# Altium schematic symbol library CM4 IO_V1.10_Library.SchLib: 153 symbols (part 5 of 6)
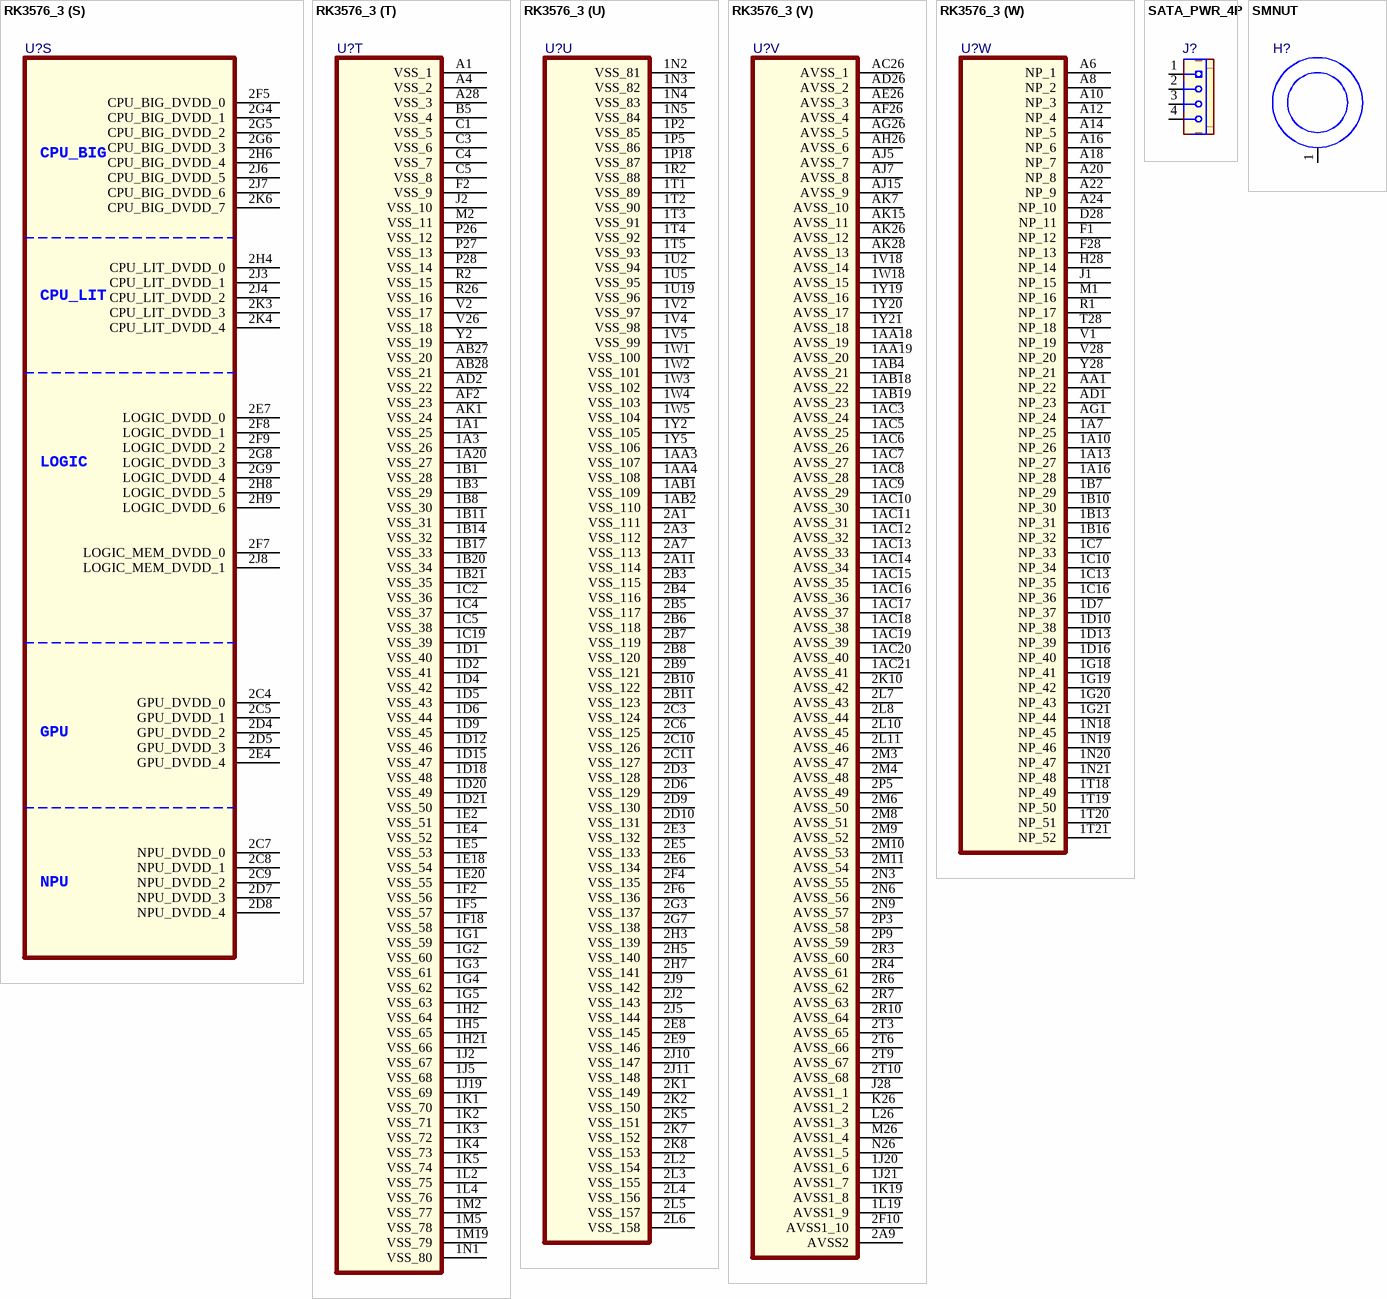
[diagram p80: symbols RK3576_3 to SMNUT]

## RK3576_3
designator U?
SWAP_INFO: (S1+S2+S3+S4+S5+S6+S7+S8+S9+S10+S11+S12+S13+S14+S15+S16+S17+S18+S19+S20+S21+S22+S23); SPLIT_INST: TRUE
part A pins: 1A2 LP5_DQ5_B    | LP4X_DQ5_B   |    LP4_DQ5_B, 1AA1 LP4_DQS1N_A  | LP4X_DQS1N_A | LP5_RDQS1N_A, 1AA2 LP4_DQS1P_A  | LP4X_DQS1P_A | LP5_RDQS1P_A, 1B2 LP5_DQ4_B    | LP4X_DQ4_B   |    LP4_DQ4_B, 1C1 LP5_DQ0_B    | LP4X_DQ0_B   |    LP4_DQ0_B, 1C3 LP5_WCK1N_B  | --           |           --, 1D3 LP5_WCK1P_B  | --           |           --, 1E1 LP5_DQ1_B    | LP4X_DQ1_B   |    LP4_DQ1_B, 1E3 LP5_A4_B     | LP4X_A4_B    |     LP4_A4_B, 1F1 LP5_A3_B     | LP4X_A3_B    |     LP4_A3_B, 1F3 LP5_WCK0N_B  | --           |           --, 1F4 LP5_WCK0P_B  | --           |           --, 1H1 LP5_A2_B     | LP4X_A2_B    |     LP4_A2_B, 1H3 --           | LP4X_CS0_B   |    LP4_CS0_B, 1H4 LP5_A6_B     | --           |           --, 1J1 LP5_CS0_B    | LP4X_CKE0_B  |   LP4_CKE0_B, 1J3 --           | LP4X_CS1_B   |    LP4_CS1_B, 1J4 LP5_A5_B     | LP4X_A5_B    |     LP4_A5_B, 1L1 LP5_CS1_B    | LP4X_CKE1_B  |   LP4_CKE1_B, 1L3 LP4_A4_A     | LP4X_A4_A    |     LP5_A4_A, 1L5 DDRPHY_CK_VDDQ, 1M1 LP4_CKE0_A   | LP4X_CKE0_A  |    LP5_CS0_A, 1M3 LP4_A5_A     | LP4X_A5_A    |     LP5_A5_A, 1M4 LP4_CKE1_A   | LP4X_CKE1_A  |    LP5_CS1_A, 1P1 LP4_A2_A     | LP4X_A2_A    |     LP5_A2_A, 1P3 LP4_CS0_A    | LP4X_CS0_A   |           --, 1P4 --           | --           |     LP5_A6_A, 1R1 LP4_A3_A     | LP4X_A3_A    |     LP5_A3_A, 1R3 LP4_CS1_A    | LP4X_CS1_A   |           --, 1R4 LP5_RESET    | LP4X_RESET   |    LP4_RESET, 1R5 ZQ_A, 1U1 LP4_DQ4_A    | LP4X_DQ4_A   |    LP5_DQ4_A, 1U3 --           | --           |  LP5_WCK0N_A, 1U4 --           | --           |  LP5_WCK0P_A, 1V1 LP4_DQ13_A   | LP4X_DQ13_A  |   LP5_DQ13_A, 1V3 LP4_DQ5_A    | LP4X_DQ5_A   |    LP5_DQ5_A, 1Y1 LP4_DQ14_A   | LP4X_DQ14_A  |   LP5_DQ14_A, 1Y3 --           | --           |  LP5_WCK1N_A, 1Y4 --           | --           |  LP5_WCK1P_A, 2B1 DDRPHY_PLL_AVDD1V8, 2B2 DDRPHY_CKE_VDDQ, 2C1 ZQ_B, 2C2 DDRPHY_PLL_AVSS, 2D1 DDRPHY_VDDQ_0, 2D2 DDRPHY_PLL_DVDD, 2E1 DDRPHY_VDDQ_1, 2E2 DDRPHY_DVDD_0, 2F1 DDRPHY_VDDQ_2, 2F2 DDRPHY_DVDD_1, 2F3 DDRPHY_DVDD_4, 2G1 DDRPHY_VDDQ_3, 2G2 DDRPHY_DVDD_2, 2H1 DDRPHY_VDDQ_4, 2H2 DDRPHY_DVDD_3, 2J1 DDRPHY_VDDQ_5, A2 LP5_DQ11_B   | LP4X_DQ11_B  |   LP4_DQ11_B, A3 LP5_RDQS1P_B | LP4X_DQS1P_B |  LP4_DQS1P_B, A5 LP5_DQ6_B    | LP4X_DQ6_B   |    LP4_DQ6_B, AA2 LP4_DQS0P_A  | LP4X_DQS0P_A | LP5_RDQS0P_A, AB1 LP4_DQ7_A    | LP4X_DQ7_A   |    LP5_DQ7_A, AB2 LP4_DMI0_A   | LP4X_DMI0_A  |   LP5_DMI0_A, AC1 LP4_DQ6_A    | LP4X_DQ6_A   |    LP5_DQ6_A, AC2 LP4_DQ12_A   | LP4X_DQ12_A  |   LP5_DQ12_A, AE1 LP4_DMI1_A   | LP4X_DMI1_A  |   LP5_DMI1_A, AE2 LP4_DQ15_A   | LP4X_DQ15_A  |   LP5_DQ15_A, AF1 LP4_DQ8_A    | LP4X_DQ8_A   |    LP5_DQ8_A, AG2 LP4_DQ9_A    | LP4X_DQ9_A   |    LP5_DQ9_A, AH1 LP4_DQ11_A   | LP4X_DQ11_A  |   LP5_DQ11_A, AH2 LP4_DQ10_A   | LP4X_DQ10_A  |   LP5_DQ10_A, B1 LP5_DQ9_B    | LP4X_DQ9_B   |    LP4_DQ9_B, B2 LP5_DQ10_B   | LP4X_DQ10_B  |   LP4_DQ10_B, B3 LP5_RDQS1N_B | LP4X_DQS1N_B |  LP4_DQS1N_B, B4 LP5_DMI0_B   | LP4X_DMI0_B  |   LP4_DMI0_B, C2 LP5_DQ8_B    | LP4X_DQ8_B   |    LP4_DQ8_B, D1 LP5_DQ15_B   | LP4X_DQ15_B  |   LP4_DQ15_B, D2 LP5_DMI1_B   | LP4X_DMI1_B  |   LP4_DMI1_B, E1 LP5_DQ14_B   | LP4X_DQ14_B  |   LP4_DQ14_B, E2 LP5_DQ13_B   | LP4X_DQ13_B  |   LP4_DQ13_B, G1 LP5_DQ7_B    | LP4X_DQ7_B   |    LP4_DQ7_B, G2 LP5_DQ12_B   | LP4X_DQ12_B  |   LP4_DQ12_B, H1 LP5_RDQS0P_B | LP4X_DQS0P_B |  LP4_DQS0P_B, H2 LP5_RDQS0N_B | LP4X_DQS0N_B |  LP4_DQS0N_B, K1 LP5_DQ3_B    | LP4X_DQ3_B   |    LP4_DQ3_B, K2 LP5_DQ2_B    | LP4X_DQ2_B   |    LP4_DQ2_B, L1 LP5_A0_B     | LP4X_A0_B    |     LP4_A0_B, L2 LP5_A1_B     | LP4X_A1_B    |     LP4_A1_B, N1 LP5_CLKN_B   | LP4X_CLKN_B  |   LP4_CLKN_B, N2 LP5_CLKP_B   | LP4X_CLKP_B  |   LP4_CLKP_B, P1 LP4_CLKN_A   | LP4X_CLKN_A  |   LP5_CLKN_A, P2 LP4_CLKP_A   | LP4X_CLKP_A  |   LP5_CLKP_A, T1 LP4_A0_A     | LP4X_A0_A    |     LP5_A0_A, T2 LP4_A1_A     | LP4X_A1_A    |     LP5_A1_A, U1 LP4_DQ3_A    | LP4X_DQ3_A   |    LP5_DQ3_A, U2 LP4_DQ2_A    | LP4X_DQ2_A   |    LP5_DQ2_A, W1 LP4_DQ0_A    | LP4X_DQ0_A   |    LP5_DQ0_A, W2 LP4_DQ1_A    | LP4X_DQ1_A   |    LP5_DQ1_A, Y1 LP4_DQS0N_A  | LP4X_DQS0N_A | LP5_RDQS0N_A
part B pins: 1AA5 UFS_TX_D0N, 1AB3 UFS_TX_D1P, 1AB5 UFS_TX_D0P, 1AC4 UFS_TX_D1N, 2N1 UFS_AVDD0V85, 2P1 UFS_AVDD1V8, 2R1 UFS_TX_REXT, AJ8 UFS_RX_D1N, AJ9 UFS_RX_D0N, AK8 UFS_RX_D1P, AK9 UFS_RX_D0P
part C pins: 1F20 PWM2_CH1_M0| MIPI_TE_M3| I2C7_SDA_M0  | UART6_RX_M2  | --          | --          | --          | FSPI0_CSN0| EMMC_RSTN| GPIO1_B3_u, 1F21 PWM2_CH7_M1| --        | --           | --           | PDM0_CLK0_M1| SAI0_SDI1_M2| SAI0_SDO3_M2| FSPI0_CLK | EMMC_CLK | GPIO1_B1_d, 1H19 --         | --        | I2C7_SCL_M0  | UART6_TX_M2  | --          | --          | --          | FSPI0_CSN1| EMMC_CMD | GPIO1_B0_u, 1H20 --         | --        | --           | SPI0_CSN1_M2 | PDM0_SDI0_M1| SAI3_SDO_M0 | SAI0_SDI0_M2| FSPI0_DQS | EMMC_STRB| GPIO1_B2_d, 2D11 VCCIO0_VCC1V8, F27 --         | --        | --           | SPI0_CLK_M2  | --          | SAI3_SDI_M0 | SAI0_SDO0_M2| FSPI0_D7  | EMMC_D7  | GPIO1_A7_u, G26 --         | --        | I2C9_SDA_M0  | SPI0_MISO_M2 | PDM0_CLK1_M1| SAI3_LRCK_M0| --          | FSPI0_D6  | EMMC_D6  | GPIO1_A6_u, G27 --         | --        | UART6_RTSN_M2| UART7_TX_M1  | PDM0_SDI3_M1| SAI0_SDI3_M2| SAI0_SDO1_M2| FSPI0_D2  | EMMC_D2  | GPIO1_A2_u, G28 --         | --        | I2C2_SDA_M1  | UART7_CTSN_M1| --          | --          | SAI0_LRCK_M2| FSPI0_D1  | EMMC_D1  | GPIO1_A1_u, H26 --         | --        | I2C2_SCL_M1  | UART7_RTSN_M1| --          | --          | SAI0_SCLK_M2| FSPI0_D0  | EMMC_D0  | GPIO1_A0_u, H27 --         | --        | --           | SPI0_CSN0_M2 | --          | SAI3_MCLK_M0| SAI0_MCLK_M2| FSPI0_D4  | EMMC_D4  | GPIO1_A4_u, J26 --         | --        | UART6_CTSN_M2| UART7_RX_M1  | PDM0_SDI1_M1| SAI0_SDI2_M2| SAI0_SDO2_M2| FSPI0_D3  | EMMC_D3  | GPIO1_A3_u, J27 --         | --        | I2C9_SCL_M0  | SPI0_MOSI_M2 | PDM0_SDI2_M1| SAI3_SCLK_M0| --          | FSPI0_D5  | EMMC_D5  | GPIO1_A5_u
part D pins: 2A8 VCCIO1_VCC, A23 I3C1_SCL_M1   | CAN1_RX_M0| SPI0_CSN1_M1| --         | UART5_RTSN_M2| JTAG_TCK_M0| --          | SAI3_LRCK_M3| DSM_AUD_RP_M0| FSPI1_D2_M0  | SDMMC0_D2 | GPIO2_A2_d, A25 PWM2_CH3_M0   | CAN0_TX_M0| SPI0_MISO_M1| I2C8_SDA_M0| UART7_TX_M2  | UART0_TX_M1| --          | SAI3_MCLK_M3| DSM_AUD_LN_M0| FSPI1_D1_M0  | SDMMC0_D1 | GPIO2_A1_d, B23 I3C1_SDA_M1   | CAN1_TX_M0| --          | --         | UART5_CTSN_M2| JTAG_TMS_M0| --          | SAI3_SDI_M3 | DSM_AUD_RN_M0| FSPI1_D3_M0  | SDMMC0_D3 | GPIO2_A3_d, B24 I3C1_SDA_PU_M1| --        | SPI0_CLK_M1 | I2C5_SCL_M0| --           | UART5_TX_M2| TEST_CLK_OUT| SAI3_SCLK_M3| --           | FSPI1_CLK_M0 | SDMMC0_CLK| GPIO2_A5_d, B25 PWM2_CH2_M0   | CAN0_RX_M0| SPI0_MOSI_M1| I2C8_SCL_M0| UART7_RX_M2  | UART0_RX_M1| --          | --          | DSM_AUD_LP_M0| FSPI1_D0_M0  | SDMMC0_D0 | GPIO2_A0_d, C24 PWM2_CH4_M0   | --        | SPI0_CSN0_M1| I2C5_SDA_M0| --           | UART5_RX_M2| --          | SAI3_SDO_M3 | --           | FSPI1_CSN0_M0| SDMMC0_CMD| GPIO2_A4_d
part E pins: 1M18 OSC_AVDD1V8, 1M20 I2C0_SCL_M0| --            | SPI2_CSN0_M0 | AUPLL_CLK_IN_M1| --          | GPIO0_B0_z, 1M21 I2C0_SDA_M0| --            | SPI2_MISO_M0 | --             | --          | GPIO0_B1_z, 1P19 --         | --            | PMIC_INT     | --             | --          | GPIO0_A6_u, 1P20 I2C1_SCL_M0| --            | SPI2_CLK_M0  | --             | --          | GPIO0_B2_z, 1P21 I2C1_SDA_M0| --            | SPI2_MOSI_M0 | --             | --          | GPIO0_B3_z, 1R18 PMUIO0_VCC1V8, 1R19 --         | --            | SPI2_CSN1_M0 | --             | SDMMC0_DETN | GPIO0_A7_u, 1R20 I2C6_SDA_M0| --            | PWR_CTRL3    | --             | --          | GPIO0_A5_d, 1R21 I2C6_SCL_M0| CLK0_32K_OUT  | CLK_32K_IN   | --             | --          | GPIO0_A2_d, 1U20 --           | PWM0_CH0_M0| --            | UART10_TX_M2        | --              | PDM0_CLK0_M0| --            | SAI0_MCLK_M1| GPIO0_C4_d, 1U21 --           | --         | SPI0_MOSI_M0  | --                  | --              | PDM0_SDI0_M0| --            | SAI0_SDI0_M1| GPIO0_D0_d, 1V19 --           | --         | SPI0_CSN0_M0  | --                  | I2C3_SCL_M1     | --          | --            | SAI0_SCLK_M1| GPIO0_C6_d, 1V20 UART1_CTSN_M0| PWM1_CH5_M0| CPUBIG_AVS    | PCIE21_PORT0_WAKE_M0| I2C4_SCL_M0     | PDM0_SDI2_M0| SAI0_SDO2_M1  | SAI0_SDI2_M1| GPIO0_D2_d, 1V21 UART1_RTSN_M0| PWM2_CH0_M0| GPU_AVS       | PCIE21_PORT1_WAKE_M0| I2C4_SDA_M0     | PDM0_SDI3_M0| SAI0_SDO1_M1  | SAI0_SDI3_M1| GPIO0_D3_d, 1W19 --           | --         | SPI0_CLK_M0   | --                  | I2C3_SDA_M1     | --          | --            | SAI0_LRCK_M1| GPIO0_C7_d, 1W20 --           | --         | I3C0_SDA_PU_M0| UART10_RX_M2        | DP_HPDIN_M1     | --          | --            | SAI0_SDO0_M1| GPIO0_C5_d, 1W21 --           | PWM0_CH1_M0| SPI0_CSN1_M0  | --                  | HDMI_TX_CEC_M1  | PDM0_CLK1_M0| --            | --          | GPIO0_C3_d, 2G10 PLL_DVDD0V75, 2G11 PLL_AVSS, 2H10 PLL_AVDD1V8, 2H11 TVSS, 2K9 PMUIO1_VCC, 2K11 PMU_LOGIC_DVDD0V75_0, 2L1 PMU_LOGIC_DVDD0V75_1, AA26 --           | --         | SPI0_MISO_M0  | --                  | --              | PDM0_SDI1_M0| SAI0_SDO3_M1  | SAI0_SDI1_M1| GPIO0_D1_d, AA27 --           | PWM1_CH2_M0| --            | EDP_TX_HPDIN_M1     | HDMI_TX_HPDIN_M1| --          | SDMMC1_DETN_M2| SDMMC0_PWREN| GPIO0_B6_d, AA28 --           | PWM1_CH0_M0| --            | UART4_TX_M2         | I2C1_SCL_M1     | --          | --            | REF_CLK1_OUT| GPIO0_B4_d, AB26 --           | PWM1_CH1_M0| --            | UART4_RX_M2         | I2C1_SDA_M1     | --          | --            | REF_CLK2_OUT| GPIO0_B5_d, R27 OSC_XIN, R28 OSC_XOUT, T26 NPOR, T27 --         | --            | --           | AUPLL_CLK_IN_M0| REF_CLK0_OUT| GPIO0_A0_d, U26 --         | TSADC_CTRL_M1 | PWR_CTRL1    | --             | --          | GPIO0_A3_d, U27 --         | TSADC_CTRL_ORG| TSADC_CTRL_M0| --             | --          | GPIO0_A1_z, U28 --         | --            | PWR_CTRL2    | --             | --          | GPIO0_A4_d, V27 --           | --         | --            | JTAG_TCK_M1         | UART0_TX_M0     | --          | --            | --          | GPIO0_D4_u, W26 --           | --         | --            | JTAG_TMS_M1         | UART0_RX_M0     | --          | --            | --          | GPIO0_D5_u, W27 --           | --         | I3C0_SDA_M0   | UART8_RX_M2         | I2C0_SDA_M1     | --          | --            | --          | GPIO0_C2_d, W28 --           | --         | I3C0_SCL_M0   | UART8_TX_M2         | I2C0_SCL_M1     | --          | --            | --          | GPIO0_C1_d, Y26 --           | PWM1_CH3_M0| CPULIT_AVS    | UART1_RX_M0         | I2C2_SDA_M0     | --          | --            | --          | GPIO0_C0_d, Y27 --           | PWM1_CH4_M0| NPU_AVS       | UART1_TX_M0         | I2C2_SCL_M0     | --          | --            | --          | GPIO0_B7_d
part F pins: 1A4 CAN0_RX_M2           | --                    | I2C4_SDA_M1  | UART6_RX_M0  | SPI3_MISO_M2| FLEXBUS0_D14_M1| PDM1_CLK0_M1   | SAI4_LRCK_M0| --          | GPIO4_A6_d, 1A5 CAN1_RX_M2           | PCIE21_PORT0_WAKE_M2  | I2C3_SDA_M0  | UART2_RX_M1  | --          | FLEXBUS0_CSN_M4| --             | --          | SPDIF_RX0_M0| GPIO4_B4_d, 1B4 CAN0_TX_M2           | --                    | I2C4_SCL_M1  | UART6_TX_M0  | SPI3_MOSI_M2| FLEXBUS0_D13_M1| PDM1_SDI3_M1   | SAI4_SCLK_M0| --          | GPIO4_A4_d, 1B5 PWM2_CH4_M1          | PCIE21_PORT1_WAKE_M2  | I2C2_SCL_M2  | UART5_RTSN_M1| SPI3_CSN0_M2| FLEXBUS1_CSN_M4| --             | --          | SAI1_SCLK_M0| GPIO4_A3_d, 1C6 CAN1_TX_M2           | PCIE21_PORT0_CLKREQ_M2| I2C3_SCL_M0  | UART2_TX_M1  | --          | FLEXBUS0_D15_M1| --             | --          | SPDIF_TX0_M0| GPIO4_B5_d, 2A2 VCCIO2_VCC, A7 PWM2_CH6_M0          | --                    | --           | --           | SPI3_CLK_M2 | --             | --             | SAI4_SDI_M0 | SAI1_SDO0_M0| GPIO4_A7_d, B6 PWM2_CH7_M0          | --                    | --           | SPI3_CSN1_M2 | SPI4_CSN0_M2| --             | PDM1_SDI0_M1   | SAI4_SDO_M0 | SAI1_SDI0_M0| GPIO4_B3_d, B7 --                   | UART2_RTSN_M1         | UART6_RTSN_M0| UART5_TX_M1  | SPI4_CLK_M2 | FLEXBUS1_D13_M1| PDM1_CLK1_M1   | SAI1_SDI3_M0| SAI1_SDO1_M0| GPIO4_B0_d, B8 --                   | PCIE21_PORT1_CLKREQ_M2| I2C2_SDA_M2  | UART5_CTSN_M1| SPI4_CSN1_M2| FLEXBUS1_D12_M1| --             | --          | SAI1_LRCK_M0| GPIO4_A5_d, C6 PWM2_CH5_M0          | --                    | --           | --           | --          | --             | AUPLL_CLK_IN_M2| SAI4_MCLK_M0| SAI1_MCLK_M0| GPIO4_A2_d, C7 --                   | UART2_CTSN_M1         | UART6_CTSN_M0| UART5_RX_M1  | SPI4_MOSI_M2| FLEXBUS1_D14_M1| PDM1_SDI2_M1   | SAI1_SDI2_M0| SAI1_SDO2_M0| GPIO4_B1_d, C8 PCIE21_PORT1_PERST_M2| PCIE21_PORT0_PERST_M2 | MIPI_TE_M0   | --           | SPI4_MISO_M2| FLEXBUS1_D15_M1| PDM1_SDI1_M1   | SAI1_SDI1_M0| SAI1_SDO3_M0| GPIO4_B2_d
part G pins: 1C20 --          | PCIE21_PORT0_BUTTONRST| SPI2_MOSI_M1| UART2_RTSN_M0 | UART4_TX_M1   | --          | --          | --          | FSPI1_D0_M1  | --             | ETH1_TXD0_M1       | GPIO1_C4_d, 1C21 --          | --                    | SPI2_CSN0_M1| I2C6_SDA_M1   | UART4_CTSN_M1 | --          | --          | --          | FSPI1_CSN0_M1| SDMMC1_DETN_M0 | ETH1_PPSTRIG_M1    | GPIO1_C3_u, 1D19 --          | SATA30_CPDET          | --          | I2C8_SDA_M1   | UART2_RX_M0   | --          | PDM0_SDI1_M2| --          | FSPI1_D3_M1  | --             | ETH1_RXD0_M1       | GPIO1_C7_d, 1E19 --          | SATA30_CPPOD          | --          | I2C8_SCL_M1   | UART2_TX_M0   | --          | PDM0_SDI0_M2| --          | FSPI1_D2_M1  | --             | ETH1_TXCTL_M1      | GPIO1_C6_d, 1E21 CLK1_32K_OUT| SATA30_MPSWIT         | SPI2_CLK_M1 | I2C5_SDA_M1   | UART10_CTSN_M1| SPDIF_TX1_M2| PDM0_CLK1_M2| --          | FSPI1_CLK_M1 | --             | ETH_CLK1_25M_OUT_M1| GPIO1_D5_d, 1F19 --          | --                    | --          | I2C5_SCL_M1   | UART10_RTSN_M1| SPDIF_RX1_M2| PDM0_SDI3_M2| SAI2_MCLK_M0| FSPI1_DQS_M1 | --             | ETH1_MCLK_M1       | GPIO1_D4_d, 1H18 VCCIO3_VCC, A27 PWM0_CH0_M1 | PCIE21_PORT1_PERST_M1 | SPI1_CSN1_M0| --            | UART3_TX_M2   | --          | PDM0_SDI2_M2| --          | --           | SDMMC1_CMD_M0  | ETH1_TXD3_M1       | GPIO1_C0_d, B27 --          | PCIE21_PORT0_WAKE_M1  | SPI1_CSN0_M0| --            | UART3_RTSN_M2 | --          | --          | SAI3_SDI_M1 | --           | SDMMC1_D3_M0   | ETH1_TXD2_M1       | GPIO1_B7_d, B28 --          | PCIE21_PORT0_CLKREQ_M1| SPI1_MISO_M0| --            | UART3_CTSN_M2 | --          | --          | SAI3_SDO_M1 | --           | SDMMC1_D2_M0   | ETH1_RXCLK_M1      | GPIO1_B6_d, C26 --          | PCIE21_PORT0_PERST_M1 | --          | --            | UART3_RX_M2   | --          | PDM0_CLK0_M2| SAI3_MCLK_M1| --           | SDMMC1_CLK_M0  | ETH1_TXCLK_M1      | GPIO1_C1_d, C27 PWM1_CH0_M1 | PCIE21_PORT1_CLKREQ_M1| SPI1_CLK_M0 | I2C9_SDA_M1   | --            | --          | --          | SAI3_SCLK_M1| --           | SDMMC1_D0_M0   | ETH1_RXD2_M1       | GPIO1_B4_d, C28 PWM1_CH1_M1 | PCIE21_PORT1_WAKE_M1  | SPI1_MOSI_M0| I2C9_SCL_M1   | --            | --          | --          | SAI3_LRCK_M1| --           | SDMMC1_D1_M0   | ETH1_RXD3_M1       | GPIO1_B5_d, D26 --          | PCIE21_PORT1_BUTTONRST| SPI2_MISO_M1| UART2_CTSN_M0 | UART4_RX_M1   | --          | --          | --          | FSPI1_D1_M1  | --             | ETH1_TXD1_M1       | GPIO1_C5_d, D27 PWM1_CH2_M1 | --                    | SPI2_CSN1_M1| I2C6_SCL_M1   | UART4_RTSN_M1 | --          | --          | --          | FSPI1_CSN1_M1| SDMMC1_PWREN_M0| ETH1_PPSCLK_M1     | GPIO1_C2_u, E26 --          | --                    | --          | I3C0_SDA_PU_M1| UART10_RX_M1  | --          | --          | SAI2_SCLK_M0| FSPI1_D5_M1  | --             | ETH1_RXCTL_M1      | GPIO1_D1_d, E27 PWM1_CH3_M1 | --                    | --          | I3C0_SCL_M1   | --            | --          | --          | SAI2_LRCK_M0| FSPI1_D6_M1  | --             | ETH1_MDC_M1        | GPIO1_D2_d, E28 --          | --                    | --          | --            | UART10_TX_M1  | --          | --          | SAI2_SDO_M0 | FSPI1_D4_M1  | --             | ETH1_RXD1_M1       | GPIO1_D0_d, F26 PWM1_CH4_M1 | --                    | --          | I3C0_SDA_M1   | --            | --          | --          | SAI2_SDI_M0 | FSPI1_D7_M1  | --             | ETH1_MDIO_M1       | GPIO1_D3_d
part H pins: 1A15 --         | --                    | I2C8_SCL_M2           | UART8_RTSN_M1| UART7_TX_M0   | --          | SAI0_SCLK_M0| ETH0_RXD3_M1       | ETH1_PTP_REFCLK_M1 | VI_CIF_D7           | GPIO2_B6_d, 1A17 --         | --                    | I2C8_SDA_M2           | UART8_CTSN_M1| UART7_RX_M0   | --          | SAI0_LRCK_M0| ETH0_RXD2_M1       | --                 | VI_CIF_D6           | GPIO2_B7_d, 1A18 PWM2_CH6_M2| I3C1_SDA_PU_M0        | --                    | --           | UART9_RTSN_M0 | SPDIF_RX0_M2| SAI3_MCLK_M2| ETH0_MCLK_M1       | ETH_CLK1_25M_OUT_M0| CAM_CLK1_OUT_M1     | GPIO2_D6_d, 1B15 --         | --                    | I2C7_SDA_M1           | SPI3_MOSI_M0 | UART3_RX_M0   | --          | SAI3_LRCK_M2| ETH0_MDC_M1        | ETH1_PPSTRIG_M0    | VI_CIF_VSYNC        | GPIO3_A1_d, 1B18 --         | MIPI_TE_M1            | CAN1_TX_M3            | SPI3_MISO_M0 | UART3_CTSN_M0 | SPDIF_RX1_M1| SAI3_SDO_M2 | ETH0_RXCTL_M1      | ETH1_PPSCLK_M0     | VI_CIF_CLKO         | GPIO3_A2_d, 1C14 PWM2_CH4_M2| --                    | I2C9_SDA_M2           | --           | UART6_RTSN_M1 | --          | --          | --                 | ETH1_MDC_M0        | ISP_PRELIGHT_TRIG_M0| GPIO2_D4_d, 1C15 PWM2_CH7_M2| --                    | --                    | SPI3_CSN1_M0 | UART9_CTSN_M0 | SPDIF_TX0_M2| SAI0_SDO3_M0| ETH_CLK0_25M_OUT_M1| ETH1_MCLK_M0       | CAM_CLK2_OUT_M1     | GPIO2_D7_d, 1C17 --         | --                    | CAN1_RX_M3            | SPI3_CSN0_M0 | UART3_RTSN_M0 | SPDIF_TX1_M1| SAI3_SDI_M2 | ETH0_RXD1_M1       | ETH1_PTP_REFCLK_M0 | VI_CIF_CLKI         | GPIO3_A3_d, 1D14 PWM2_CH5_M2| --                    | I2C9_SCL_M2           | --           | UART6_CTSN_M1 | --          | --          | --                 | ETH1_MDIO_M0       | ISP_FLASH_TRIGOUT_M0| GPIO2_D5_d, 2A6 VCCIO4_VCC, A15 PWM0_CH0_M2| --                    | --                    | SPI1_MISO_M1 | UART11_RTSN_M1| PDM1_SDI3_M0| SAI2_LRCK_M1| --                 | ETH1_TXD2_M0       | VI_CIF_D2           | GPIO2_C3_d, A17 PWM1_CH1_M2| --                    | --                    | SPI1_CSN1_M1 | UART9_TX_M0   | PDM1_CLK1_M0| SAI2_MCLK_M1| ETH0_PPSCLK_M1     | ETH1_RXD3_M0       | VI_CIF_D4           | GPIO2_C1_d, A19 PWM1_CH2_M2| --                    | --                    | SPI1_MOSI_M1 | UART11_CTSN_M1| PDM1_SDI2_M0| SAI2_SCLK_M1| ETH0_PPSTRIG_M1    | ETH1_RXCLK_M0      | VI_CIF_D3           | GPIO2_C2_d, A21 --         | --                    | --                    | --           | UART1_RX_M1   | PDM0_SDI2_M3| SAI0_SDI1_M0| ETH0_TXD0_M1       | SDMMC1_D3_M1       | VI_CIF_D12          | GPIO2_B1_d, B15 PWM0_CH1_M2| --                    | I2C5_SDA_M2           | --           | UART4_RTSN_M0 | --          | SAI4_LRCK_M3| --                 | ETH1_TXD1_M0       | --                  | GPIO2_C7_d, B16 PWM2_CH0_M2| --                    | I2C6_SCL_M2           | --           | UART4_TX_M0   | --          | SAI4_SDI_M3 | --                 | ETH1_TXCTL_M0      | --                  | GPIO2_D0_d, B17 PWM1_CH0_M2| --                    | --                    | --           | UART9_RX_M0   | PDM1_SDI1_M0| --          | ETH0_PTP_REFCLK_M1 | ETH1_RXD2_M0       | VI_CIF_D5           | GPIO2_C0_d, B18 PWM2_CH1_M2| --                    | I2C6_SDA_M2           | --           | UART4_RX_M0   | --          | SAI4_SDO_M3 | --                 | ETH1_RXD0_M0       | --                  | GPIO2_D1_d, B19 --         | --                    | I2C7_SCL_M1           | SPI3_CLK_M0  | UART3_TX_M0   | --          | SAI3_SCLK_M2| ETH0_MDIO_M1       | --                 | VI_CIF_HREF         | GPIO3_A0_d, B20 --         | SATA30_PORT0_ACTLED_M0| PCIE21_PORT0_PERST_M0 | SPI4_MOSI_M3 | UART7_CTSN_M0 | PDM0_SDI0_M3| SAI0_SDI3_M0| ETH0_TXD2_M1       | SDMMC1_PWREN_M1    | VI_CIF_D9           | GPIO2_B4_d, B21 --         | --                    | I2C4_SDA_M2           | --           | UART8_RX_M1   | --          | SAI0_SDO1_M0| ETH0_TXCTL_M1      | SDMMC1_D1_M1       | VI_CIF_D14          | GPIO2_A7_d, B22 --         | --                    | I2C4_SCL_M2           | SPI4_CSN1_M3 | UART8_TX_M1   | --          | SAI0_SDO0_M0| ETH0_RXD0_M1       | SDMMC1_D0_M1       | VI_CIF_D15          | GPIO2_A6_d, C15 PWM1_CH3_M2| --                    | --                    | SPI1_CSN0_M1 | UART11_TX_M1  | PDM1_SDI0_M0| SAI2_SDO_M1 | --                 | ETH1_TXD3_M0       | VI_CIF_D1           | GPIO2_C4_d, C16 PWM1_CH5_M2| --                    | I2C5_SCL_M2           | --           | UART4_CTSN_M0 | --          | SAI4_SCLK_M3| --                 | ETH1_TXD0_M0       | --                  | GPIO2_C6_d, C17 PWM1_CH4_M2| --                    | --                    | SPI1_CLK_M1  | UART11_RX_M1  | PDM1_CLK0_M0| SAI2_SDI_M1 | --                 | ETH1_TXCLK_M0      | VI_CIF_D0           | GPIO2_C5_d, C18 PWM2_CH2_M2| I3C1_SCL_M0           | --                    | --           | UART6_TX_M1   | --          | SAI4_MCLK_M3| --                 | ETH1_RXD1_M0       | CAM_CLK0_OUT_M1     | GPIO2_D2_d, C19 PWM2_CH3_M2| I3C1_SDA_M0           | --                    | --           | UART6_RX_M1   | --          | --          | --                 | ETH1_RXCTL_M0      | --                  | GPIO2_D3_d, C20 --         | --                    | PCIE21_PORT0_CLKREQ_M0| SPI4_CSN0_M3 | UART1_CTSN_M1 | PDM0_SDI1_M3| SAI0_SDI2_M0| ETH0_TXD3_M1       | SDMMC1_CMD_M1      | VI_CIF_D11          | GPIO2_B2_d, C21 --         | --                    | --                    | --           | UART1_TX_M1   | PDM0_SDI3_M3| SAI0_SDI0_M0| ETH0_TXD1_M1       | SDMMC1_D2_M1       | VI_CIF_D13          | GPIO2_B0_d, C22 --         | --                    | PCIE21_PORT1_CLKREQ_M0| SPI4_CLK_M3  | UART1_RTSN_M1 | PDM0_CLK1_M3| SAI0_SDO2_M0| ETH0_TXCLK_M1      | SDMMC1_CLK_M1      | VI_CIF_D10          | GPIO2_B3_d, C23 --         | SATA30_PORT1_ACTLED_M0| PCIE21_PORT1_PERST_M0 | SPI4_MISO_M3 | UART7_RTSN_M0 | PDM0_CLK0_M3| SAI0_MCLK_M0| ETH0_RXCLK_M1      | SDMMC1_DETN_M1     | VI_CIF_D8           | GPIO2_B5_d
part I pins: 1A6 --         | --            | SPI1_MOSI_M2  | UART8_TX_M0   | --             | --             | FLEXBUS1_D5    | DSMC_DATA3 | SAI1_LRCK_M1| --                 | VO_EBC_SDDO5 | VO_LCDC_D5   | GPIO3_C6_d, 1A8 PWM2_CH2_M3| --            | SPI1_MISO_M2  | UART8_RX_M0   | --             | --             | FLEXBUS1_D6    | DSMC_DATA4 | SAI1_SDO0_M1| --                 | VO_EBC_SDDO6 | VO_LCDC_D6   | GPIO3_C5_d, 1A9 PWM2_CH6_M3| --            | SPI3_MOSI_M1  | UART5_CTSN_M0 | --             | --             | FLEXBUS1_CLK   | DSMC_CLKN  | SAI1_SDI3_M1| --                 | VO_EBC_SDCLK | VO_LCDC_VSYNC| GPIO3_D6_d, 1A11 MIPI_TE_M2 | I2C7_SCL_M2   | SPI1_CSN1_M2  | UART3_TX_M1   | FLEXBUS1_CSN_M3| FLEXBUS1_D14_M0| FLEXBUS0_D13_M0| DSMC_INT0  | SAI4_LRCK_M1| CAM_CLK1_OUT_M0    | SPDIF_RX0_M1 | --           | GPIO4_A0_d, 1A12 PWM1_CH0_M3| --            | SPI2_CLK_M2   | UART1_CTSN_M2 | FLEXBUS0_CSN_M0| --             | FLEXBUS1_D11   | DSMC_RDYN  | SAI4_SDI_M1 | ETH_CLK0_25M_OUT_M0| VO_EBC_SDSHR | VO_LCDC_D23  | GPIO3_A4_d, 1A14 --         | I2C3_SCL_M2   | SPI3_CLK_M1   | UART5_RX_M0   | --             | --             | FLEXBUS1_D1    | DSMC_DATA0 | SAI1_SDI1_M1| --                 | VO_EBC_SDLE  | VO_LCDC_DEN  | GPIO3_D4_d, 1B6 --         | --            | SPI1_CLK_M2   | UART8_RTSN_M0 | --             | --             | FLEXBUS1_D4    | DSMC_DATA2 | SAI1_SCLK_M1| --                 | VO_EBC_SDDO4 | VO_LCDC_D4   | GPIO3_C7_d, 1B9 --         | I2C3_SDA_M2   | SPI3_MISO_M1  | UART5_TX_M0   | --             | --             | FLEXBUS1_D0    | DSMC_CLKP  | SAI1_SDI2_M1| --                 | VO_EBC_GDCLK | VO_LCDC_HSYNC| GPIO3_D5_d, 1B12 --         | I2C7_SDA_M2   | --            | UART3_RX_M1   | FLEXBUS0_CSN_M1| FLEXBUS1_D13_M0| FLEXBUS0_D14_M0| DSMC_INT2  | SAI4_SDO_M1 | CAM_CLK2_OUT_M0    | SPDIF_TX0_M1 | VO_POST_EMPTY| GPIO4_A1_d, 1C8 CAN0_TX_M3 | I2C5_SCL_M3   | SPI2_CSN0_M2  | UART11_TX_M0  | --             | --             | FLEXBUS1_D7    | DSMC_DATA5 | SAI1_SDO1_M1| --                 | VO_EBC_SDDO7 | VO_LCDC_D7   | GPIO3_C4_d, 1C9 CAN0_RX_M3 | I2C5_SDA_M3   | SPI2_MISO_M2  | UART11_RX_M0  | --             | --             | FLEXBUS1_D8    | DSMC_DATA6 | SAI1_SDO2_M1| ETH0_PTP_REFCLK_M0 | VO_EBC_SDDO10| VO_LCDC_D10  | GPIO3_C1_d, 1C11 --         | I2C4_SDA_M3   | UART3_CTSN_M1 | UART2_RX_M2   | FLEXBUS1_CSN_M0| --             | FLEXBUS1_D10   | DSMC_DQS0  | SAI1_SDI0_M1| ETH0_PPSTRIG_M0    | VO_EBC_SDDO12| VO_LCDC_D12  | GPIO3_B7_d, 1C12 PWM2_CH7_M3| --            | SPI3_CSN1_M1  | UART5_RTSN_M0 | FLEXBUS1_CSN_M1| FLEXBUS1_D12_M0| FLEXBUS0_D15_M0| DSMC_RESETN| SAI4_SCLK_M1| CAM_CLK0_OUT_M0    | VO_EBC_SDOE  | VO_LCDC_CLK  | GPIO3_D7_d, 1D8 PWM2_CH3_M3| --            | SPI1_CSN0_M2  | UART8_CTSN_M0 | --             | --             | FLEXBUS1_D3    | DSMC_DATA1 | SAI1_MCLK_M1| --                 | VO_EBC_SDDO3 | VO_LCDC_D3   | GPIO3_D0_d, 1D11 --         | I2C4_SCL_M3   | UART3_RTSN_M1 | UART2_TX_M2   | --             | --             | FLEXBUS1_D9    | DSMC_DATA7 | SAI1_SDO3_M1| ETH0_PPSCLK_M0     | VO_EBC_SDDO11| VO_LCDC_D11  | GPIO3_C0_d, 2A4 VCCIO5_VCC_0, 2A5 VCCIO5_VCC_1, A9 PWM1_CH1_M3| --            | SPI2_CSN1_M2  | UART1_RTSN_M2 | --             | --             | FLEXBUS0_D7    | DSMC_DATA15| PDM1_SDI3_M2| ETH0_MDIO_M0       | VO_EBC_GDSP  | VO_LCDC_D22  | GPIO3_A5_d, A11 --         | I2C8_SCL_M3   | --            | UART9_TX_M1   | --             | --             | FLEXBUS0_D2    | DSMC_DATA10| PDM1_SDI0_M2| ETH0_TXCTL_M0      | VO_EBC_SDCE0 | VO_LCDC_D16  | GPIO3_B3_d, A13 --         | I2C8_SDA_M3   | --            | UART9_RX_M1   | --             | --             | FLEXBUS0_D3    | DSMC_DATA11| PDM1_SDI1_M2| ETH0_RXD0_M0       | VO_EBC_SDCE1 | VO_LCDC_D17  | GPIO3_B2_d, B9 PWM2_CH0_M3| I2C9_SCL_M3   | SPI4_MISO_M1  | UART11_RTSN_M0| --             | --             | FLEXBUS0_D9    | DSMC_INT1  | SAI2_SCLK_M2| ETH0_TXD3_M0       | VO_EBC_SDDO9 | VO_LCDC_D9   | GPIO3_C2_d, B10 PWM1_CH4_M3| --            | --            | UART9_RTSN_M1 | --             | --             | FLEXBUS0_D1    | DSMC_DATA9 | SPDIF_RX1_M0| ETH0_TXD1_M0       | VO_EBC_SDDO15| VO_LCDC_D15  | GPIO3_B4_d, B11 PWM0_CH1_M3| --            | SPI3_CSN0_M1  | --            | --             | --             | FLEXBUS0_CLK   | DSMC_DQS1  | --          | ETH0_TXCLK_M0      | VO_EBC_SDDO13| VO_LCDC_D13  | GPIO3_B6_d, B12 PWM2_CH5_M3| I3C1_SCL_M2   | --            | UART2_CTSN_M2 | --             | --             | FLEXBUS1_D2    | DSMC_CSN0  | SAI2_SDO_M2 | ETH0_RXD2_M0       | VO_EBC_SDDO0 | VO_LCDC_D0   | GPIO3_D3_d, B13 --         | --            | UART10_RTSN_M0| UART1_TX_M2   | --             | --             | FLEXBUS0_D5    | DSMC_DATA13| PDM1_CLK1_M2| ETH0_RXCTL_M0      | VO_EBC_VCOM  | VO_LCDC_D20  | GPIO3_A7_d, B14 PWM0_CH0_M3| --            | SPI2_MOSI_M2  | UART10_RX_M0  | --             | --             | FLEXBUS0_D8    | DSMC_CSN1  | SAI4_MCLK_M1| ETH0_MCLK_M0       | VO_EBC_SDCE3 | VO_LCDC_D19  | GPIO3_B0_d, C9 PWM1_CH2_M3| --            | UART10_CTSN_M0| UART1_RX_M2   | --             | --             | FLEXBUS0_D6    | DSMC_DATA14| PDM1_SDI2_M2| ETH0_MDC_M0        | VO_EBC_GDOE  | VO_LCDC_D21  | GPIO3_A6_d, C10 PWM2_CH1_M3| I2C9_SDA_M3   | SPI4_MOSI_M1  | UART11_CTSN_M0| FLEXBUS0_CSN_M2| --             | FLEXBUS0_D10   | DSMC_INT3  | SAI2_LRCK_M2| ETH0_TXD2_M0       | VO_EBC_SDDO8 | VO_LCDC_D8   | GPIO3_C3_d, C11 PWM1_CH5_M3| --            | --            | UART9_CTSN_M1 | --             | --             | FLEXBUS0_D0    | DSMC_DATA8 | SPDIF_TX1_M0| ETH0_TXD0_M0       | VO_EBC_SDDO14| VO_LCDC_D14  | GPIO3_B5_d, C12 PWM2_CH4_M3| I3C1_SDA_M2   | SPI4_CSN1_M1  | UART2_RTSN_M2 | FLEXBUS0_CSN_M3| FLEXBUS1_D15_M0| FLEXBUS0_D12   | DSMC_CSN3  | SAI2_SDI_M2 | ETH0_RXD3_M0       | VO_EBC_SDDO1 | VO_LCDC_D1   | GPIO3_D2_d, C13 PWM1_CH3_M3| --            | SPI4_CSN0_M1  | UART10_TX_M0  | --             | --             | FLEXBUS0_D4    | DSMC_DATA12| PDM1_CLK0_M2| ETH0_RXD1_M0       | VO_EBC_SDCE2 | VO_LCDC_D18  | GPIO3_B1_d, C14 --         | I3C1_SDA_PU_M2| SPI4_CLK_M1   | --            | FLEXBUS1_CSN_M2| --             | FLEXBUS0_D11   | DSMC_CSN2  | SAI2_MCLK_M2| ETH0_RXCLK_M0      | VO_EBC_SDDO2 | VO_LCDC_D2   | GPIO3_D1_d
part J pins: 1AC1 PWM2_CH2_M1| CAN1_TX_M1  | SPI4_MISO_M0   | I2C6_SCL_M3| SATA30_PORT0_ACTLED_M1| PCIE21_PORT0_CLKREQ_M3| VP1_SYNC_OUT| SAI4_SDI_M2 | --                  | GPIO4_C6_d, 2N2 VCCIO6_VCC, AJ1 PWM1_CH5_M1| UART11_TX_M2| SPI4_CSN1_M0   | I2C7_SCL_M3| PCIE21_PORT1_WAKE_M3  | HDMI_TX_CEC_M0        | --          | SAI4_MCLK_M2| DSM_AUD_LP_M1       | GPIO4_C0_d, AJ2 PWM0_CH1_M1| UART11_RX_M2| EDP_TX_HPDIN_M0| I2C7_SDA_M3| PCIE21_PORT1_CLKREQ_M3| HDMI_TX_HPDIN_M0      | --          | --          | DSM_AUD_LN_M1       | GPIO4_C1_d, AJ3 PWM2_CH1_M1| UART9_RX_M2 | CAN0_RX_M1     | I2C2_SDA_M3| --                    | HDMI_TX_SDA           | --          | --          | DSM_AUD_RN_M1       | GPIO4_C3_d, AJ4 PWM2_CH5_M1| UART6_RX_M3 | SPI4_MOSI_M0   | I2C3_SDA_M3| SATA30_PORT1_ACTLED_M1| PCIE21_PORT0_WAKE_M3  | VP0_SYNC_OUT| SAI4_SDO_M2 | ISP_FLASH_TRIGOUT_M1| GPIO4_C5_d, AK2 PWM2_CH0_M1| UART9_TX_M2 | CAN0_TX_M1     | I2C2_SCL_M3| --                    | HDMI_TX_SCL           | --          | --          | DSM_AUD_RP_M1       | GPIO4_C2_d, AK3 PWM2_CH6_M1| UART6_TX_M3 | SPI4_CSN0_M0   | I2C3_SCL_M3| DP_HPDIN_M0           | PCIE21_PORT1_PERST_M3 | --          | SAI4_LRCK_M2| ISP_PRELIGHT_TRIG_M1| GPIO4_C4_d, AK4 PWM2_CH3_M1| CAN1_RX_M1  | SPI4_CLK_M0    | I2C6_SDA_M3| --                    | PCIE21_PORT0_PERST_M3 | VP2_SYNC_OUT| SAI4_SCLK_M2| --                  | GPIO4_C7_d
part K pins: 1AC2 UFS_RSTN  | GPIO4_D0_d, 2M1 VCCIO7_VCC, 2M2 OSC_UFS_AVDD, AJ6 OSC_UFS_XOUT, AK5 UFS_REFCLK| GPIO4_D1_d, AK6 OSC_UFS_XIN
part L pins: 2M5 USB30_OTG0_DP_TX_AVDD0V85, 2N4 USB30_OTG0_DP_TX_AVDD1V8, 2N5 USB30_OTG0_DP_TX_DVDD0V85, 2T1 USB30_OTG0_SBU1   | DP_TX_AUXP, 2T2 USB30_OTG0_SBU2   | DP_TX_AUXN, 2T7 USB30_OTG0_REXT   | DP_TX_REXT, AJ11 USB30_OTG0_SSRX1P |  DP_TX_D0P, AJ12 USB30_OTG0_SSTX1N |  DP_TX_D1N, AJ13 USB30_OTG0_SSRX2P |  DP_TX_D2P, AJ14 USB30_OTG0_SSTX2N |  DP_TX_D3N, AK11 USB30_OTG0_SSRX1N |  DP_TX_D0N, AK12 USB30_OTG0_SSTX1P |  DP_TX_D1P, AK13 USB30_OTG0_SSRX2N |  DP_TX_D2N, AK14 USB30_OTG0_SSTX2P |  DP_TX_D3P
part M pins: 2P2 USB20_OTG0_VBUSDET, 2P4 USB20_OTG_AVDD1V8, 2P6 USB20_OTG_DVDD0V75, 2P7 USB20_OTG_AVDD3V3, 2R2 USB20_OTG0_REXT, 2R5 USB20_OTG0_ID, 2R8 USB20_OTG1_VBUSDET, 2R9 USB20_OTG1_ID, 2T4 USB20_OTG1_DP, 2T5 USB20_OTG1_DM, 2T8 USB20_OTG1_REXT, AJ10 USB20_OTG0_DM, AK10 USB20_OTG0_DP
part N pins: 1J18 PCIE21_PORT0_SATA30_PORT0_AVDD1V8, 1K18 PCIE21_PORT1_SATA30_PORT1_USB30_OTG1_AVDD1V8, 1K20 PCIE21_PORT0_REFCLKN |               --, 1K21 PCIE21_PORT0_REFCLKP |               --, 1L20 PCIE21_PORT1_REFCLKN | --               |               --, 1L21 PCIE21_PORT1_REFCLKP | --               |               --, 2E11 PCIE21_PORT0_SATA30_PORT0_AVDD0V85, 2F11 PCIE21_PORT1_SATA30_PORT1_USB30_OTG1_AVDD0V85, K27 PCIE21_PORT0_TXN     | SATA30_PORT0_TXN, K28 PCIE21_PORT0_TXP     | SATA30_PORT0_TXP, L27 PCIE21_PORT0_RXP     | SATA30_PORT0_RXP, L28 PCIE21_PORT0_RXN     | SATA30_PORT0_RXN, M27 PCIE21_PORT1_RXP     | SATA30_PORT1_RXP | USB30_OTG1_SSRXP, M28 PCIE21_PORT1_RXN     | SATA30_PORT1_RXN | USB30_OTG1_SSRXN, N27 PCIE21_PORT1_TXP     | SATA30_PORT1_TXP | USB30_OTG1_SSTXP, N28 PCIE21_PORT1_TXN     | SATA30_PORT1_TXN | USB30_OTG1_SSTXN
part O pins: 2M7 MIPI_DCPHY_AVDD, 2N7 MIPI_DCPHY_VREG, 2N8 MIPI_DCPHY_AVDD1V2, 2P8 MIPI_DCPHY_AVDD1V8, AJ16 MIPI_DPHY_DSI_TX_D0N   | MIPI_CPHY_DSI_TX_TRIO0_A, AJ17 MIPI_DPHY_DSI_TX_D1N   | MIPI_CPHY_DSI_TX_TRIO0_C, AJ18 MIPI_DPHY_DSI_TX_CLKN  | MIPI_CPHY_DSI_TX_TRIO1_B, AJ19 MIPI_DPHY_DSI_TX_D2N   | MIPI_CPHY_DSI_TX_TRIO2_A, AJ20 MIPI_DPHY_DSI_TX_D3N   | MIPI_CPHY_DSI_TX_TRIO2_C, AJ21 MIPI_DPHY_CSI0_RX_D0P  | MIPI_CPHY_CSI_RX_TRIO0_B, AJ22 MIPI_DPHY_CSI0_RX_D1P  | MIPI_CPHY_CSI_RX_TRIO1_A, AJ23 MIPI_DPHY_CSI0_RX_CLKP | MIPI_CPHY_CSI_RX_TRIO1_C, AJ24 MIPI_DPHY_CSI0_RX_D2P  | MIPI_CPHY_CSI_RX_TRIO2_B, AJ25 MIPI_DPHY_CSI0_RX_D3P  |                   NO_USE, AK16 MIPI_DPHY_DSI_TX_D0P   | MIPI_CPHY_DSI_TX_TRIO0_B, AK17 MIPI_DPHY_DSI_TX_D1P   | MIPI_CPHY_DSI_TX_TRIO1_A, AK18 MIPI_DPHY_DSI_TX_CLKP  | MIPI_CPHY_DSI_TX_TRIO1_C, AK19 MIPI_DPHY_DSI_TX_D2P   | MIPI_CPHY_DSI_TX_TRIO2_B, AK20 MIPI_DPHY_DSI_TX_D3P   |                   NO_USE, AK21 MIPI_DPHY_CSI0_RX_D0N  | MIPI_CPHY_CSI_RX_TRIO0_A, AK22 MIPI_DPHY_CSI0_RX_D1N  | MIPI_CPHY_CSI_RX_TRIO0_C, AK23 MIPI_DPHY_CSI0_RX_CLKN | MIPI_CPHY_CSI_RX_TRIO1_B, AK24 MIPI_DPHY_CSI0_RX_D2N  | MIPI_CPHY_CSI_RX_TRIO2_A, AK25 MIPI_DPHY_CSI0_RX_D3N  | MIPI_CPHY_CSI_RX_TRIO2_C
part P pins: 1AA20 MIPI_DPHY_CSI2_RX_CLKP |                     --, 1AA20 MIPI_DPHY_CSI4_RX_CLKP |                     --, 1AA21 --                     | MIPI_DPHY_CSI1_RX_CLKP, 1AA21 --                     | MIPI_DPHY_CSI3_RX_CLKP, 1AB20 MIPI_DPHY_CSI2_RX_CLKN |                     --, 1AB20 MIPI_DPHY_CSI4_RX_CLKN |                     --, 1AB21 --                     | MIPI_DPHY_CSI1_RX_CLKN, 1AB21 --                     | MIPI_DPHY_CSI3_RX_CLKN, 1U18 MIPI_DPHY_CSI1/2_RX_AVDD1V8, 1U18 MIPI_DPHY_CSI3/4_RX_AVDD1V8, 2L9 MIPI_DPHY_CSI1/2_RX_AVDD0V75, 2L9 MIPI_DPHY_CSI3/4_RX_AVDD0V75, AC27 --                     |  MIPI_DPHY_CSI1_RX_D0P, AC27 --                     |  MIPI_DPHY_CSI3_RX_D0P, AC28 --                     |  MIPI_DPHY_CSI1_RX_D0N, AC28 --                     |  MIPI_DPHY_CSI3_RX_D0N, AD27 --                     |  MIPI_DPHY_CSI1_RX_D1P, AD27 --                     |  MIPI_DPHY_CSI3_RX_D1P, AD28 --                     |  MIPI_DPHY_CSI1_RX_D1N, AD28 --                     |  MIPI_DPHY_CSI3_RX_D1N, AE27 MIPI_DPHY_CSI2_RX_D0P  |  MIPI_DPHY_CSI1_RX_D2P, AE27 MIPI_DPHY_CSI4_RX_D0P  |  MIPI_DPHY_CSI3_RX_D2P, AE28 MIPI_DPHY_CSI2_RX_D0N  |  MIPI_DPHY_CSI1_RX_D2N, AE28 MIPI_DPHY_CSI4_RX_D0N  |  MIPI_DPHY_CSI3_RX_D2N, AF27 MIPI_DPHY_CSI2_RX_D1P  |  MIPI_DPHY_CSI1_RX_D3P, AF27 MIPI_DPHY_CSI4_RX_D1P  |  MIPI_DPHY_CSI3_RX_D3P, AF28 MIPI_DPHY_CSI2_RX_D1N  |  MIPI_DPHY_CSI1_RX_D3N, AF28 MIPI_DPHY_CSI4_RX_D1N  |  MIPI_DPHY_CSI3_RX_D3N
part Q pins: 1Y18 HDMI_TX_REXT | EDP_TX_REXT, 2N10 HDMI_TX_EDP_TX_AVDDC0V75, 2N11 HDMI_TX_EDP_TX_AVDDD0V75, 2P10 HDMI_TX_EDP_TX_AVDDIO1V8, 2P11 HDMI_TX_EDP_TX_AVDDCMN1V8, 2R11 HDMI_TX_SBDP | EDP_TX_AUXP, 2T11 HDMI_TX_SBDN | EDP_TX_AUXN, AG27 HDMI_TX_D2N  |  EDP_TX_D2N, AG28 HDMI_TX_D2P  |  EDP_TX_D2P, AH27 HDMI_TX_D1N  |  EDP_TX_D1N, AH28 HDMI_TX_D1P  |  EDP_TX_D1P, AJ26 HDMI_TX_CLKN |  EDP_TX_D3N, AJ27 HDMI_TX_D0N  |  EDP_TX_D0N, AJ28 HDMI_TX_D0P  |  EDP_TX_D0P, AK27 HDMI_TX_CLKP |  EDP_TX_D3P
part R pins: 1A19 SARADC_IN4, 1A21 SARADC_IN3, 1B19 SARADC_IN5, 1C18 SARADC_IN6, 1D17 SARADC_IN7, 1L18 OTP_DVDD0V75, 2A10 SARADC_AVDD1V8, 2E10 TSADC_TEST_OUT_TS, A26 SARADC_IN1, B26 SARADC_IN0_BOOT, C25 SARADC_IN2
part S pins: 2C4 GPU_DVDD_0, 2C5 GPU_DVDD_1, 2C7 NPU_DVDD_0, 2C8 NPU_DVDD_1, 2C9 NPU_DVDD_2, 2D4 GPU_DVDD_2, 2D5 GPU_DVDD_3, 2D7 NPU_DVDD_3, 2D8 NPU_DVDD_4, 2E4 GPU_DVDD_4, 2E7 LOGIC_DVDD_0, 2F5 CPU_BIG_DVDD_0, 2F7 LOGIC_MEM_DVDD_0, 2F8 LOGIC_DVDD_1, 2F9 LOGIC_DVDD_2, 2G4 CPU_BIG_DVDD_1, 2G5 CPU_BIG_DVDD_2, 2G6 CPU_BIG_DVDD_3, 2G8 LOGIC_DVDD_3, 2G9 LOGIC_DVDD_4, 2H4 CPU_LIT_DVDD_0, 2H6 CPU_BIG_DVDD_4, 2H8 LOGIC_DVDD_5, 2H9 LOGIC_DVDD_6, 2J3 CPU_LIT_DVDD_1, 2J4 CPU_LIT_DVDD_2, 2J6 CPU_BIG_DVDD_5, 2J7 CPU_BIG_DVDD_6, 2J8 LOGIC_MEM_DVDD_1, 2K3 CPU_LIT_DVDD_3, 2K4 CPU_LIT_DVDD_4, 2K6 CPU_BIG_DVDD_7
part T pins: 1A1 VSS_25, 1A3 VSS_26, 1A20 VSS_27, 1B1 VSS_28, 1B3 VSS_29, 1B8 VSS_30, 1B11 VSS_31, 1B14 VSS_32, 1B17 VSS_33, 1B20 VSS_34, 1B21 VSS_35, 1C2 VSS_36, 1C4 VSS_37, 1C5 VSS_38, 1C19 VSS_39, 1D1 VSS_40, 1D2 VSS_41, 1D4 VSS_42, 1D5 VSS_43, 1D6 VSS_44, 1D9 VSS_45, 1D12 VSS_46, 1D15 VSS_47, 1D18 VSS_48, 1D20 VSS_49, 1D21 VSS_50, 1E2 VSS_51, 1E4 VSS_52, 1E5 VSS_53, 1E18 VSS_54, 1E20 VSS_55, 1F2 VSS_56, 1F5 VSS_57, 1F18 VSS_58, 1G1 VSS_59, 1G2 VSS_60, 1G3 VSS_61, 1G4 VSS_62, 1G5 VSS_63, 1H2 VSS_64, 1H5 VSS_65, 1H21 VSS_66, 1J2 VSS_67, 1J5 VSS_68, 1J19 VSS_69, 1K1 VSS_70, 1K2 VSS_71, 1K3 VSS_72, 1K4 VSS_73, 1K5 VSS_74, 1L2 VSS_75, 1L4 VSS_76, 1M2 VSS_77, 1M5 VSS_78, 1M19 VSS_79, 1N1 VSS_80, A1 VSS_1, A4 VSS_2, A28 VSS_3, AB27 VSS_20, AB28 VSS_21, AD2 VSS_22, AF2 VSS_23, AK1 VSS_24, B5 VSS_4, C1 VSS_5, C3 VSS_6, C4 VSS_7, C5 VSS_8, F2 VSS_9, J2 VSS_10, M2 VSS_11, P26 VSS_12, P27 VSS_13, P28 VSS_14, R2 VSS_15, R26 VSS_16, V2 VSS_17, V26 VSS_18, Y2 VSS_19
part U pins: 1AA3 VSS_107, 1AA4 VSS_108, 1AB1 VSS_109, 1AB2 VSS_110, 1N2 VSS_81, 1N3 VSS_82, 1N4 VSS_83, 1N5 VSS_84, 1P2 VSS_85, 1P5 VSS_86, 1P18 VSS_87, 1R2 VSS_88, 1T1 VSS_89, 1T2 VSS_90, 1T3 VSS_91, 1T4 VSS_92, 1T5 VSS_93, 1U2 VSS_94, 1U5 VSS_95, 1U19 VSS_96, 1V2 VSS_97, 1V4 VSS_98, 1V5 VSS_99, 1W1 VSS_100, 1W2 VSS_101, 1W3 VSS_102, 1W4 VSS_103, 1W5 VSS_104, 1Y2 VSS_105, 1Y5 VSS_106, 2A1 VSS_111, 2A3 VSS_112, 2A7 VSS_113, 2A11 VSS_114, 2B3 VSS_115, 2B4 VSS_116, 2B5 VSS_117, 2B6 VSS_118, 2B7 VSS_119, 2B8 VSS_120, 2B9 VSS_121, 2B10 VSS_122, 2B11 VSS_123, 2C3 VSS_124, 2C6 VSS_125, 2C10 VSS_126, 2C11 VSS_127, 2D3 VSS_128, 2D6 VSS_129, 2D9 VSS_130, 2D10 VSS_131, 2E3 VSS_132, 2E5 VSS_133, 2E6 VSS_134, 2E8 VSS_145, 2E9 VSS_146, 2F4 VSS_135, 2F6 VSS_136, 2G3 VSS_137, 2G7 VSS_138, 2H3 VSS_139, 2H5 VSS_140, 2H7 VSS_141, 2J2 VSS_143, 2J5 VSS_144, 2J9 VSS_142, 2J10 VSS_147, 2J11 VSS_148, 2K1 VSS_149, 2K2 VSS_150, 2K5 VSS_151, 2K7 VSS_152, 2K8 VSS_153, 2L2 VSS_154, 2L3 VSS_155, 2L4 VSS_156, 2L5 VSS_157, 2L6 VSS_158
part V pins: 1AA18 AVSS_19, 1AA19 AVSS_20, 1AB4 AVSS_21, 1AB18 AVSS_22, 1AB19 AVSS_23, 1AC3 AVSS_24, 1AC5 AVSS_25, 1AC6 AVSS_26, 1AC7 AVSS_27, 1AC8 AVSS_28, 1AC9 AVSS_29, 1AC10 AVSS_30, 1AC11 AVSS_31, 1AC12 AVSS_32, 1AC13 AVSS_33, 1AC14 AVSS_34, 1AC15 AVSS_35, 1AC16 AVSS_36, 1AC17 AVSS_37, 1AC18 AVSS_38, 1AC19 AVSS_39, 1AC20 AVSS_40, 1AC21 AVSS_41, 1J20 AVSS1_6, 1J21 AVSS1_7, 1K19 AVSS1_8, 1L19 AVSS1_9, 1V18 AVSS_14, 1W18 AVSS_15, 1Y19 AVSS_16, 1Y20 AVSS_17, 1Y21 AVSS_18, 2A9 AVSS2, 2F10 AVSS1_10, 2K10 AVSS_42, 2L7 AVSS_43, 2L8 AVSS_44, 2L10 AVSS_45, 2L11 AVSS_46, 2M3 AVSS_47, 2M4 AVSS_48, 2M6 AVSS_50, 2M8 AVSS_51, 2M9 AVSS_52, 2M10 AVSS_53, 2M11 AVSS_54, 2N3 AVSS_55, 2N6 AVSS_56, 2N9 AVSS_57, 2P3 AVSS_58, 2P5 AVSS_49, 2P9 AVSS_59, 2R3 AVSS_60, 2R4 AVSS_61, 2R6 AVSS_62, 2R7 AVSS_63, 2R10 AVSS_64, 2T3 AVSS_65, 2T6 AVSS_66, 2T9 AVSS_67, 2T10 AVSS_68, AC26 AVSS_1, AD26 AVSS_2, AE26 AVSS_3, AF26 AVSS_4, AG26 AVSS_5, AH26 AVSS_6, AJ5 AVSS_7, AJ7 AVSS_8, AJ15 AVSS_9, AK7 AVSS_10, AK15 AVSS_11, AK26 AVSS_12, AK28 AVSS_13, J28 AVSS1_1, K26 AVSS1_2, L26 AVSS1_3, M26 AVSS1_4, N26 AVSS1_5
part W pins: 1A7 NP_25, 1A10 NP_26, 1A13 NP_27, 1A16 NP_28, 1B7 NP_29, 1B10 NP_30, 1B13 NP_31, 1B16 NP_32, 1C7 NP_33, 1C10 NP_34, 1C13 NP_35, 1C16 NP_36, 1D7 NP_37, 1D10 NP_38, 1D13 NP_39, 1D16 NP_40, 1G18 NP_41, 1G19 NP_42, 1G20 NP_43, 1G21 NP_44, 1N18 NP_45, 1N19 NP_46, 1N20 NP_47, 1N21 NP_48, 1T18 NP_49, 1T19 NP_50, 1T20 NP_51, 1T21 NP_52, A6 NP_1, A8 NP_2, A10 NP_3, A12 NP_4, A14 NP_5, A16 NP_6, A18 NP_7, A20 NP_8, A22 NP_9, A24 NP_10, AA1 NP_22, AD1 NP_23, AG1 NP_24, D28 NP_11, F1 NP_12, F28 NP_13, H28 NP_14, J1 NP_15, M1 NP_16, R1 NP_17, T28 NP_18, V1 NP_19, V28 NP_20, Y28 NP_21
part A text: LPDDR4; LPDDR4X; LPDDR5; DDR_PLL Power; LP4/4X_CKE&LP5_CS & Reset Power; LPDDR4/4X=1.1V / LPDDR5=1.05V; 0.75V-0.85V; 1.8V; LPDDR4/4X=0.6V / LPDDR5=0.5V; CK Power; DDR Digital Core Power; DDR IO Power; (Except for ck, / cke and reset)
part B text: PWM-G1/G2/G3/G4 / HS-G1/G2/G3; UFS2.1
part C text: VCCIO0 Domain; Operating Voltage=1.8V
part D text: VCCIO1 Domain; Operating Voltage=1.8V/3.3V
part E text: PMUIO0 Domain; OSC; Operating Voltage=1.8V; PMUIO1 Domain; PLL; Operating Voltage=1.8V/3.3V; PMUIO0/PMUIO1/VCCIO7 Domain Logic Power; Operating Voltage=0.75V
part F text: VCCIO2 Domain; Operating Voltage=1.8V/3.3V
part G text: VCCIO3 Domain; Operating Voltage=1.8V/3.3V
part H text: VCCIO4 Domain; Operating Voltage=1.8V/3.3V
part I text: VCCIO5 Domain; Operating Voltage=1.8V/3.3V
part J text: VCCIO6 Domain; Operating Voltage=1.8V/3.3V
part K text: VCCIO7 Domain; Operating Voltage=1.2V/1.8V; OSC for UFS
part L text: USB:U3/Gen1----Controller0 / DP:RBR/HBR/HBR2/HBR3; USB3.0 OTG0/DP1.4 Alt
part M text: OTG/HOST/DEVICE / HS/FS/LS; USB2.0 OTG0; Download Port; 40K; USB2.0 OTG1
part N text: PCIE21/SATA30 Combo Phy0; input or output; PCIe21x1_0 / 1Lane(RC); SATA30 HOST / Controller0; MUX; PCIE21:Gen1/Gen2 / SATA30:Gen1/Gen2/Gen3; PCIE20/SATA30/USB30 Combo Phy1; PCIe21x1_1 / 1Lane(RC); SATA30 HOST / Controller1; USB30 OTG / Controller1; PCIE21:Gen1/Gen2 / USB 30:Gen1 / SATA30:Gen1/Gen2/Gen3
part O text: MIPI DCPHY DSI TX; D-PHY:V2.0  4.5Gbps/Lane / C-PHY:V1.1  5.7Gbps/Trio; MIPI DCPHY CSI RX
part P text: MIPI DPHY CSI1/2 RX; MIPI V1.2/2.5Gbps; MIPI DPHY CSI3/4 RX
part Q text: HDMI:V2.1   12Gbps / eDP: V1.3   5.4Gbps; HDMI TX/eDP TX Combo Phy
part R text: SARADC; 12-bit 1MS/s; Recovery/; TSADC; OTP
part S text: CPU_BIG; CPU_LIT; LOGIC; GPU; NPU

## SATA_PWR_4P
designator J?
footprint CON_TH1X4_2D54_SATA
pins: 1, 2, 3, 4

## SMNUT
designator H?
footprint HOLE_2D7_6D0_A
pins: 1

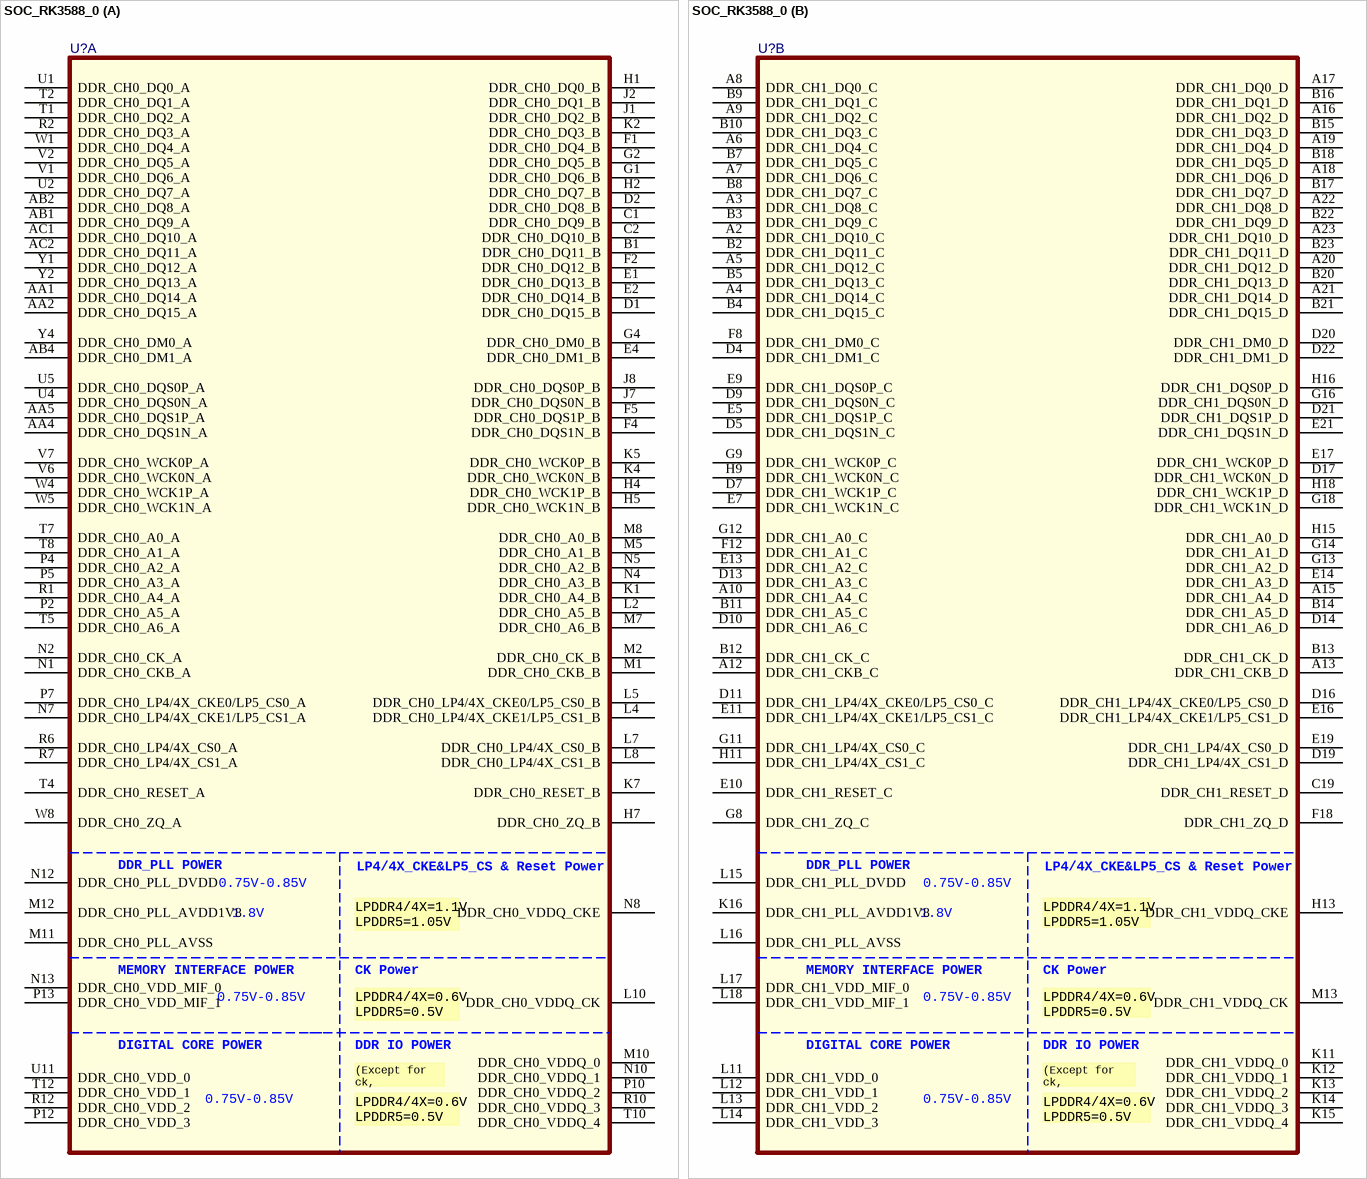
[diagram p60: symbol SOC_RK3588_0]

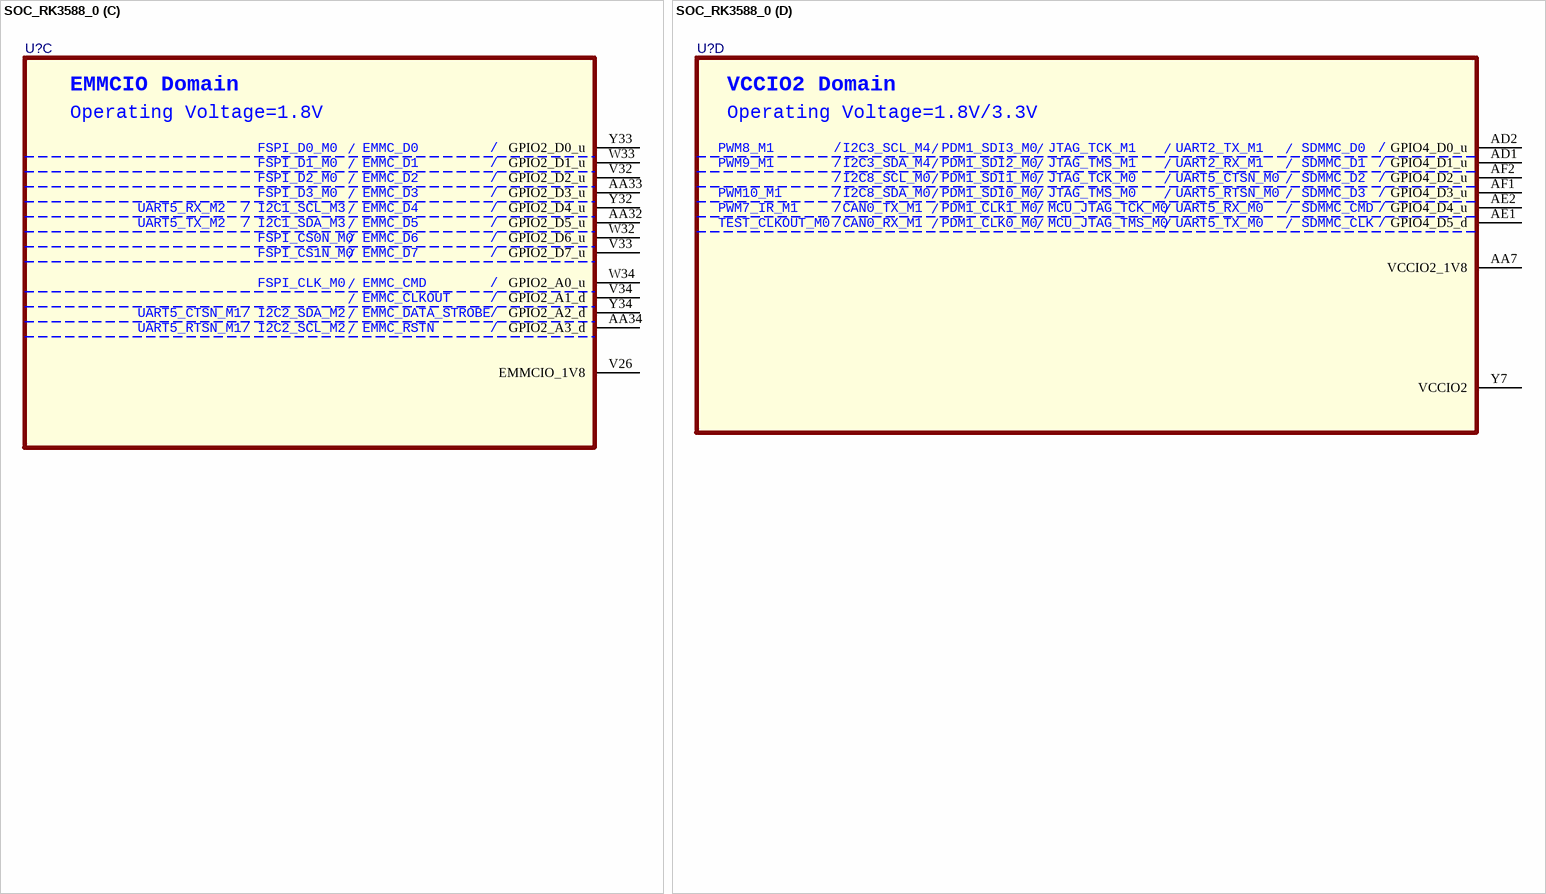
[diagram p61: symbol SOC_RK3588_0]

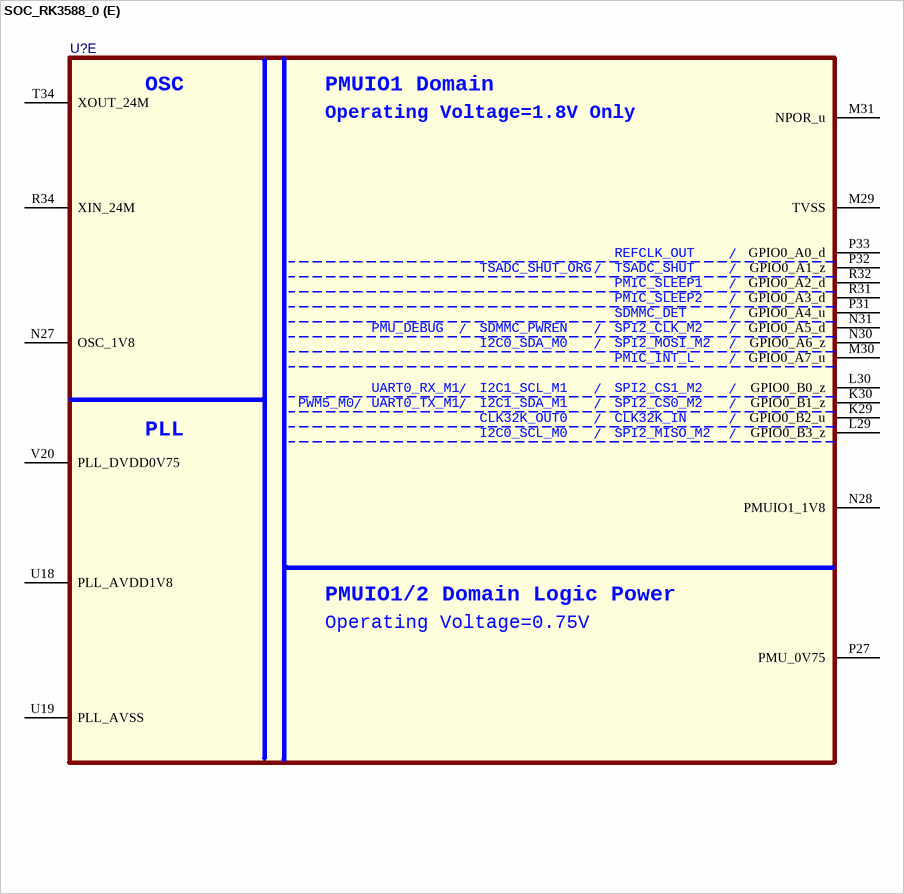
[diagram p62: symbol SOC_RK3588_0]

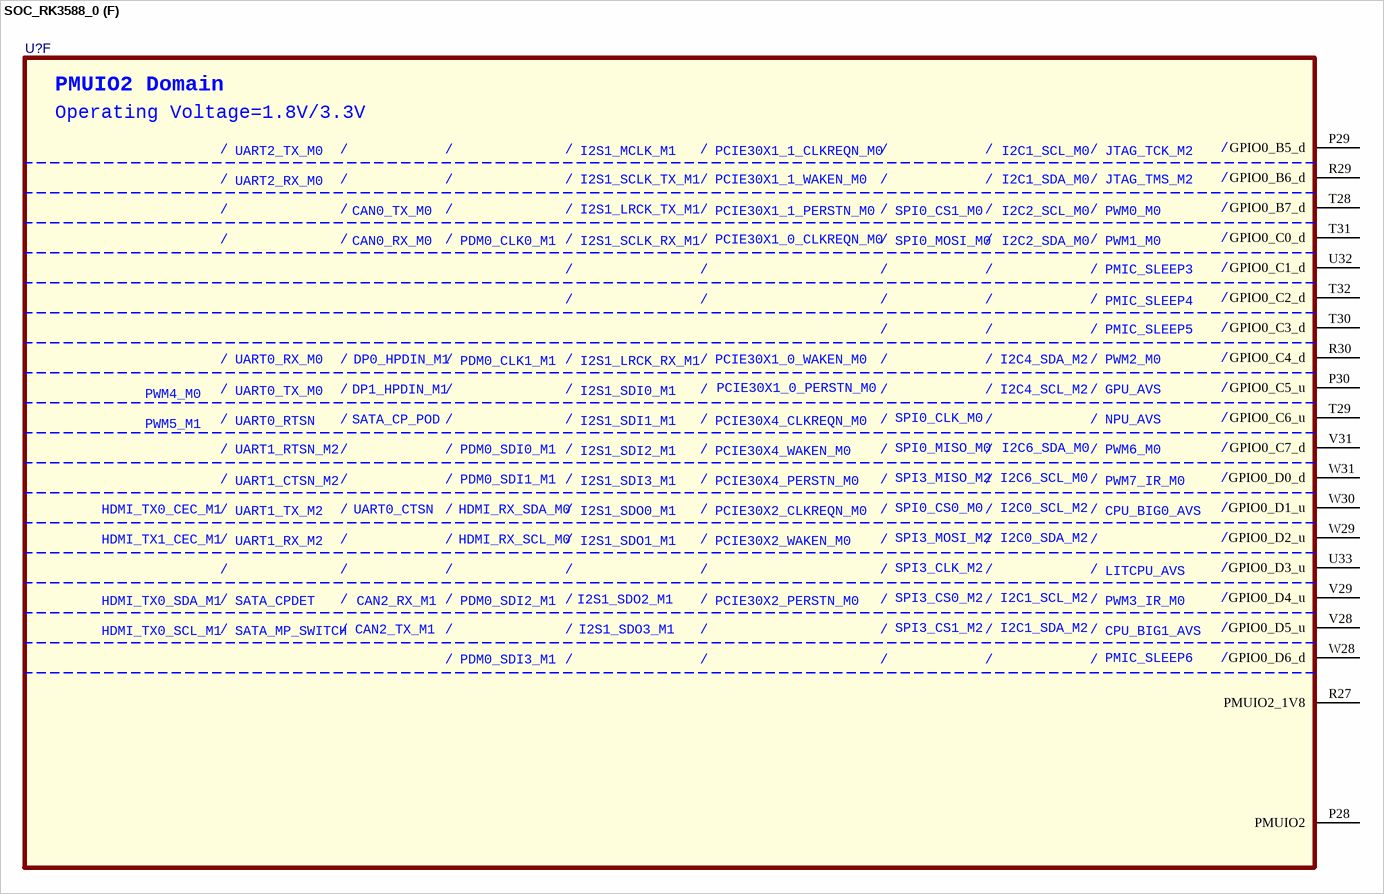
[diagram p63: symbol SOC_RK3588_0]

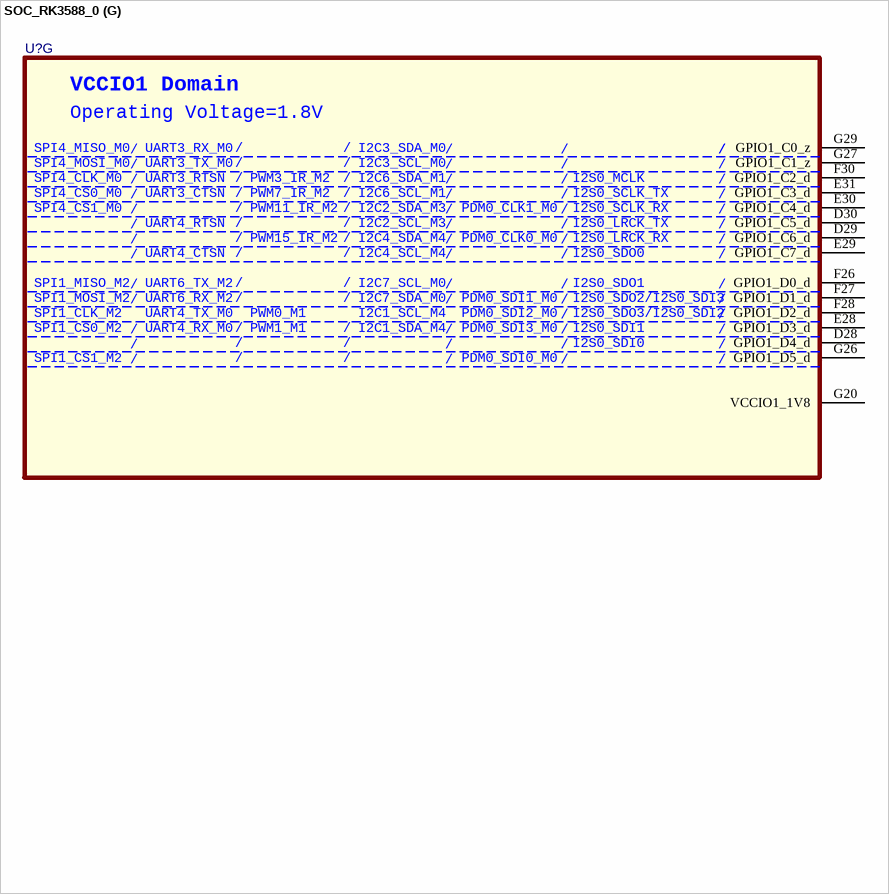
[diagram p64: symbol SOC_RK3588_0]

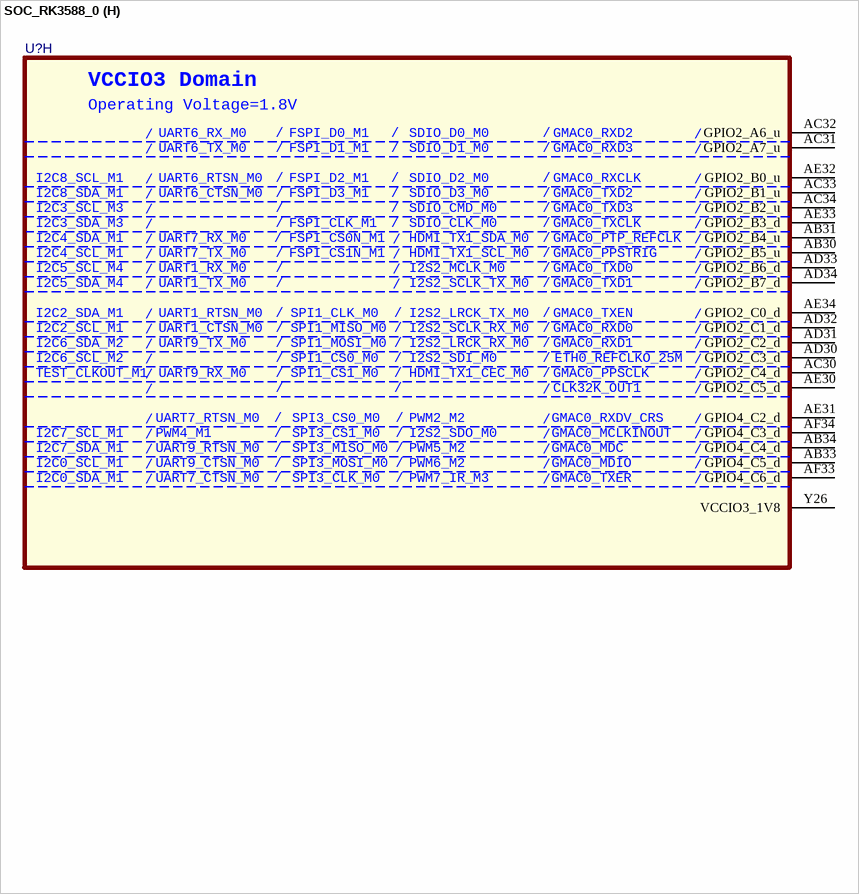
[diagram p65: symbol SOC_RK3588_0]

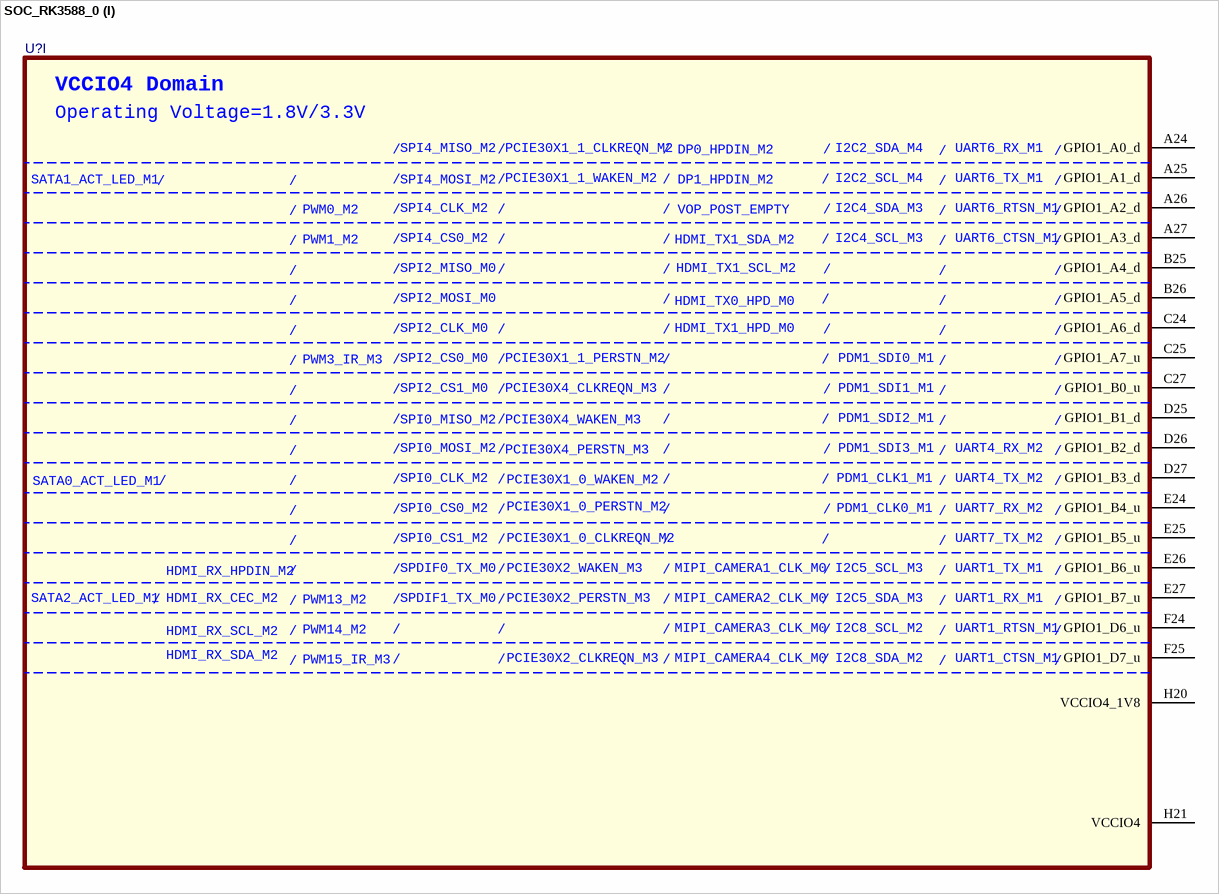
[diagram p66: symbol SOC_RK3588_0]

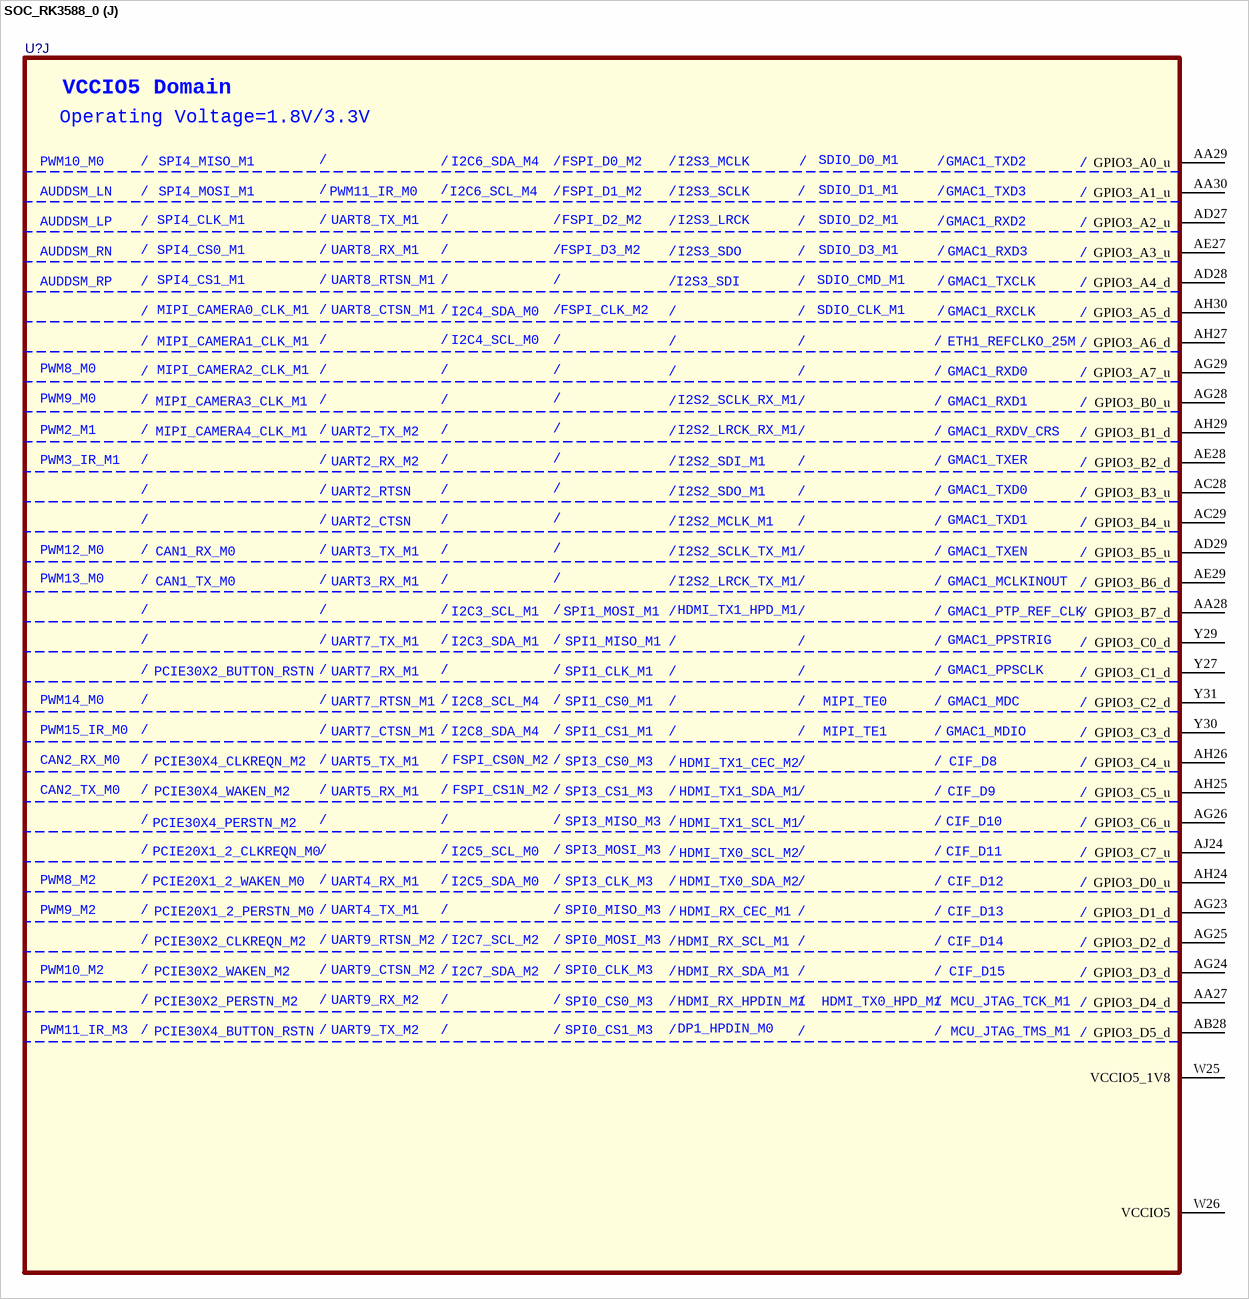
[diagram p67: symbol SOC_RK3588_0]

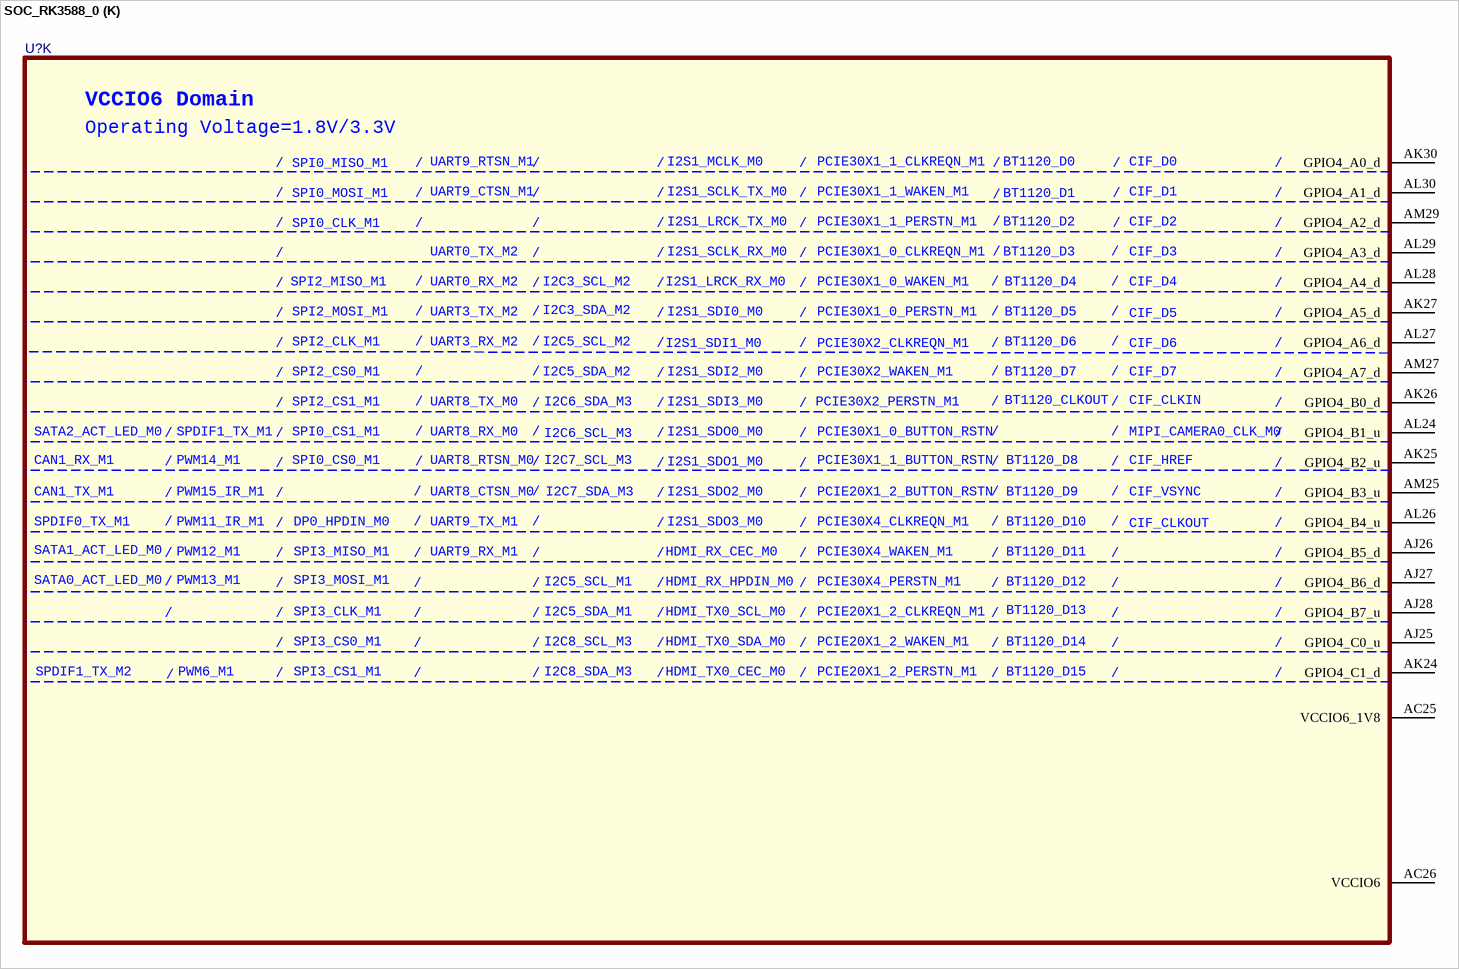
[diagram p68: symbol SOC_RK3588_0]

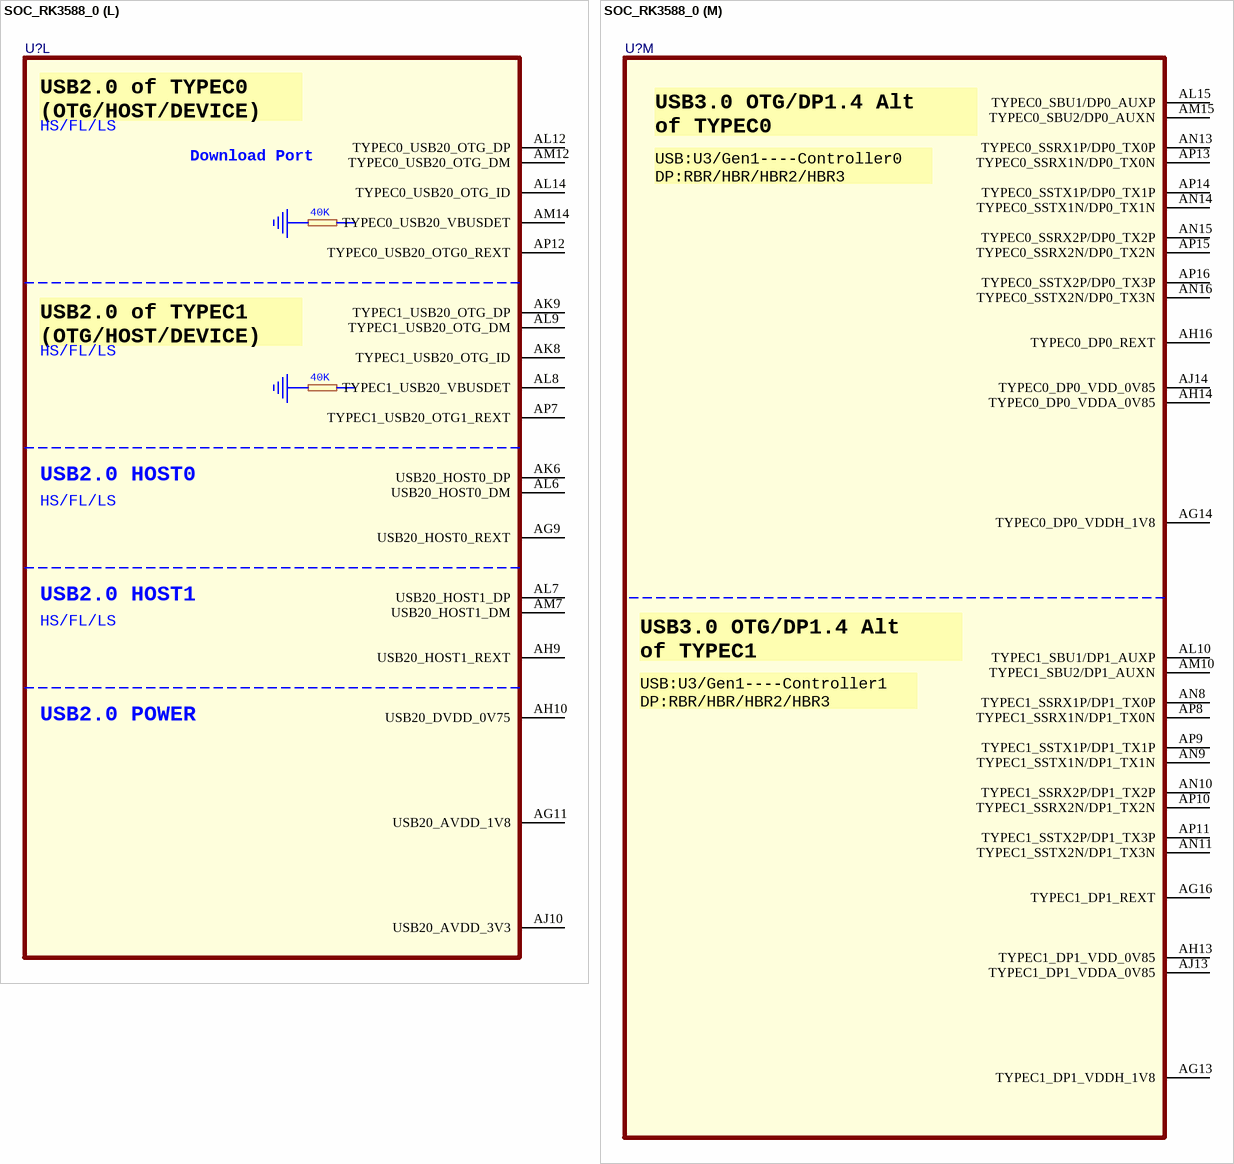
[diagram p69: symbol SOC_RK3588_0]

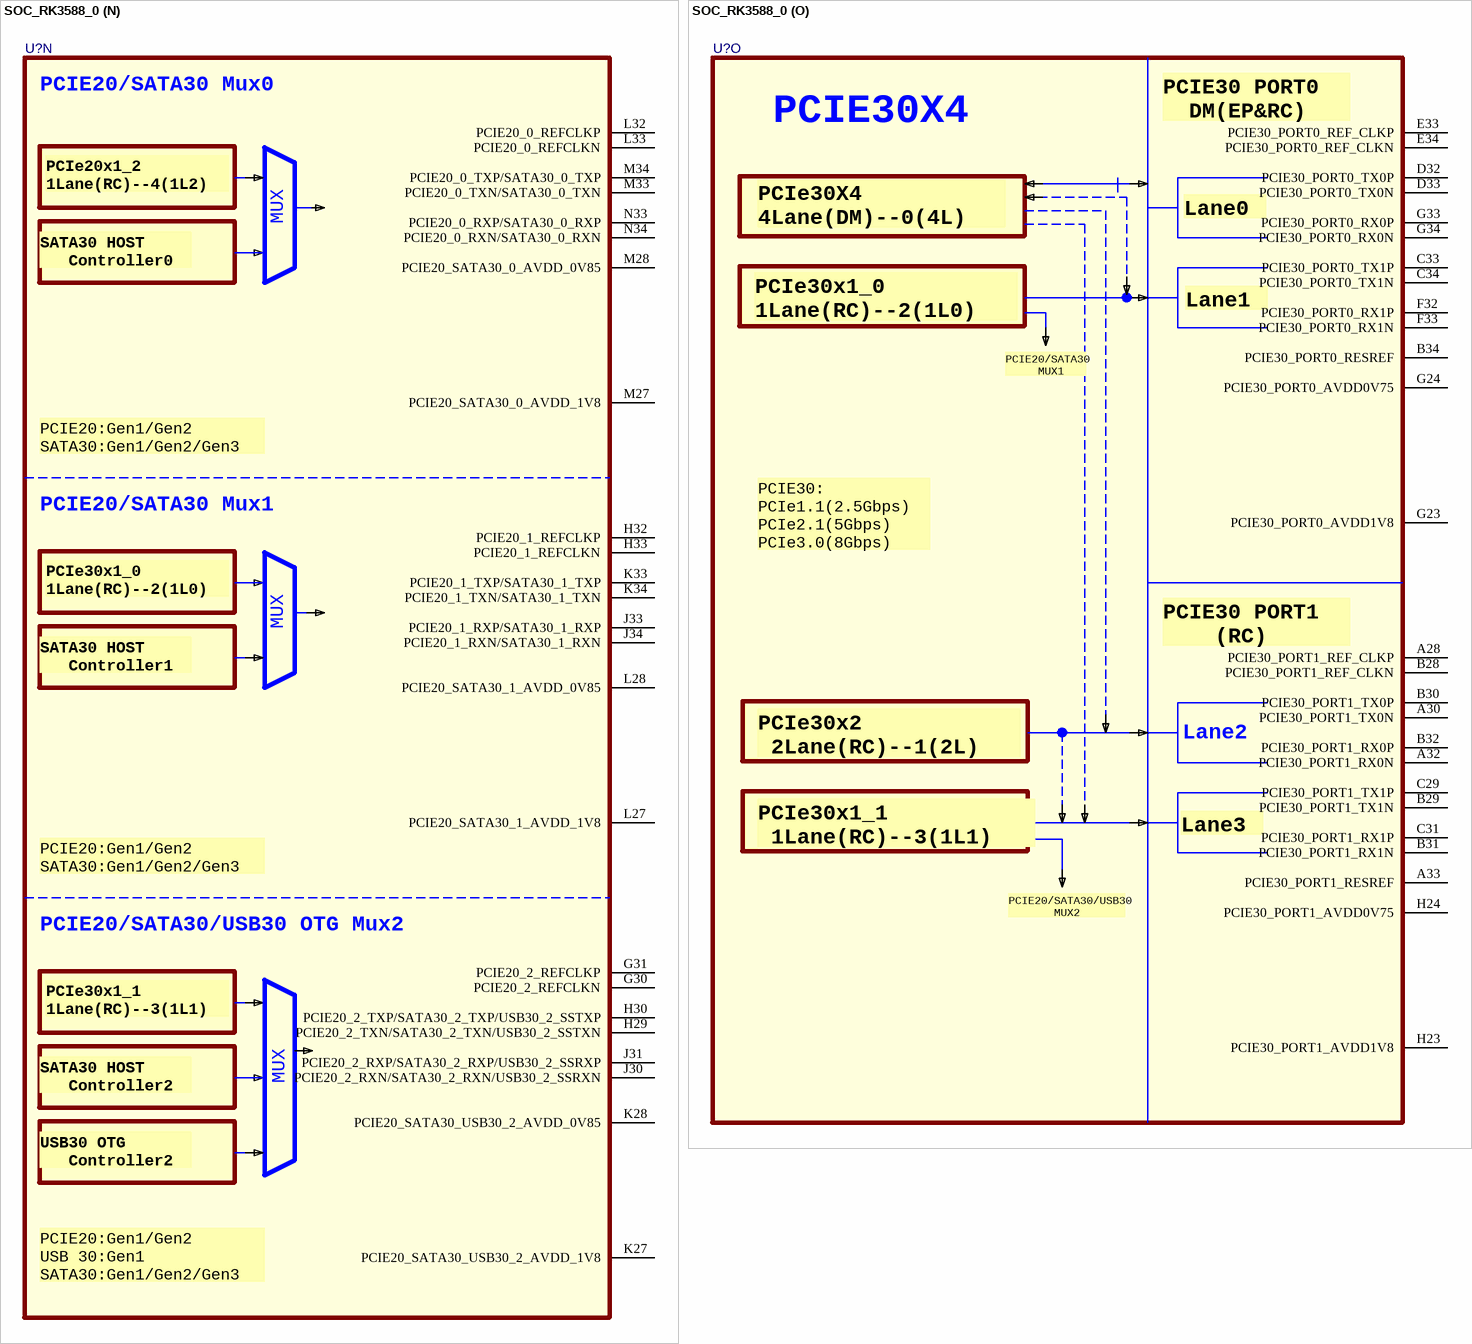
[diagram p70: symbol SOC_RK3588_0]

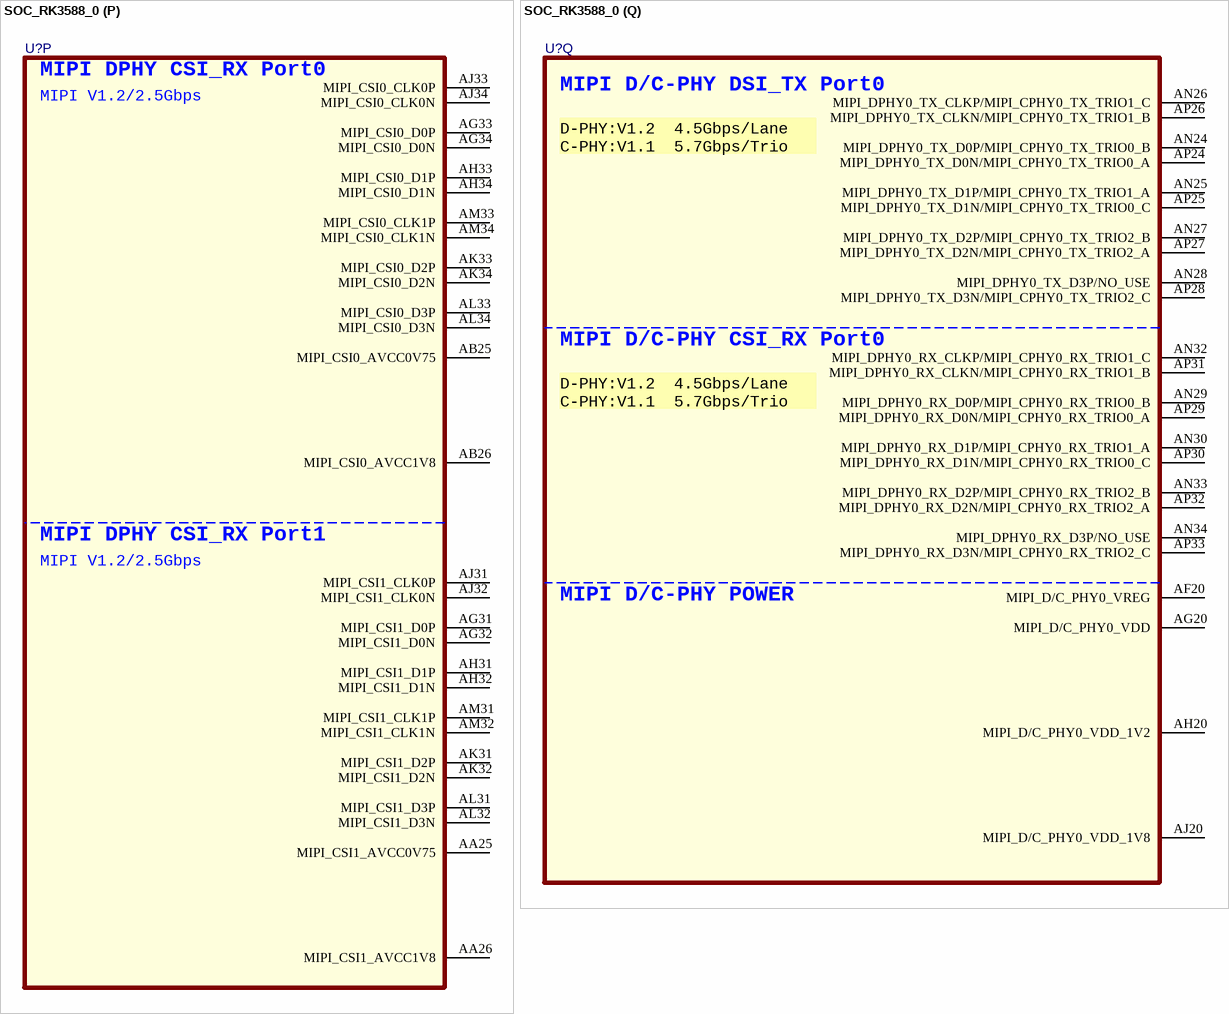
[diagram p71: symbol SOC_RK3588_0]

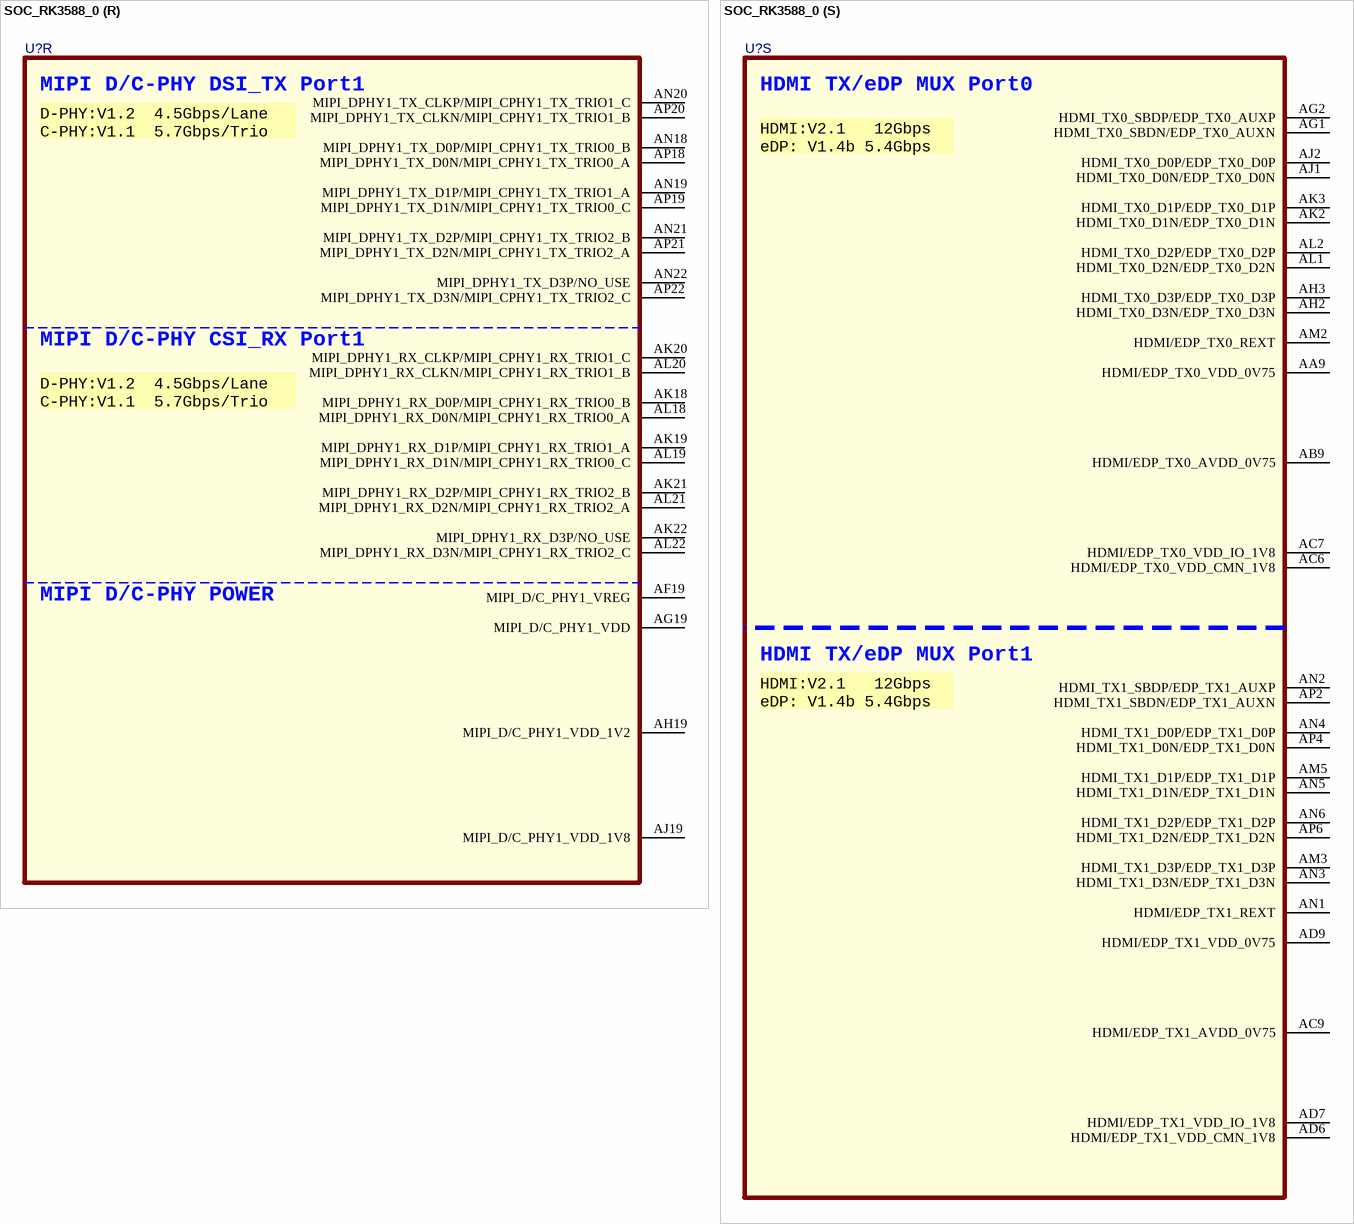
[diagram p72: symbol SOC_RK3588_0]

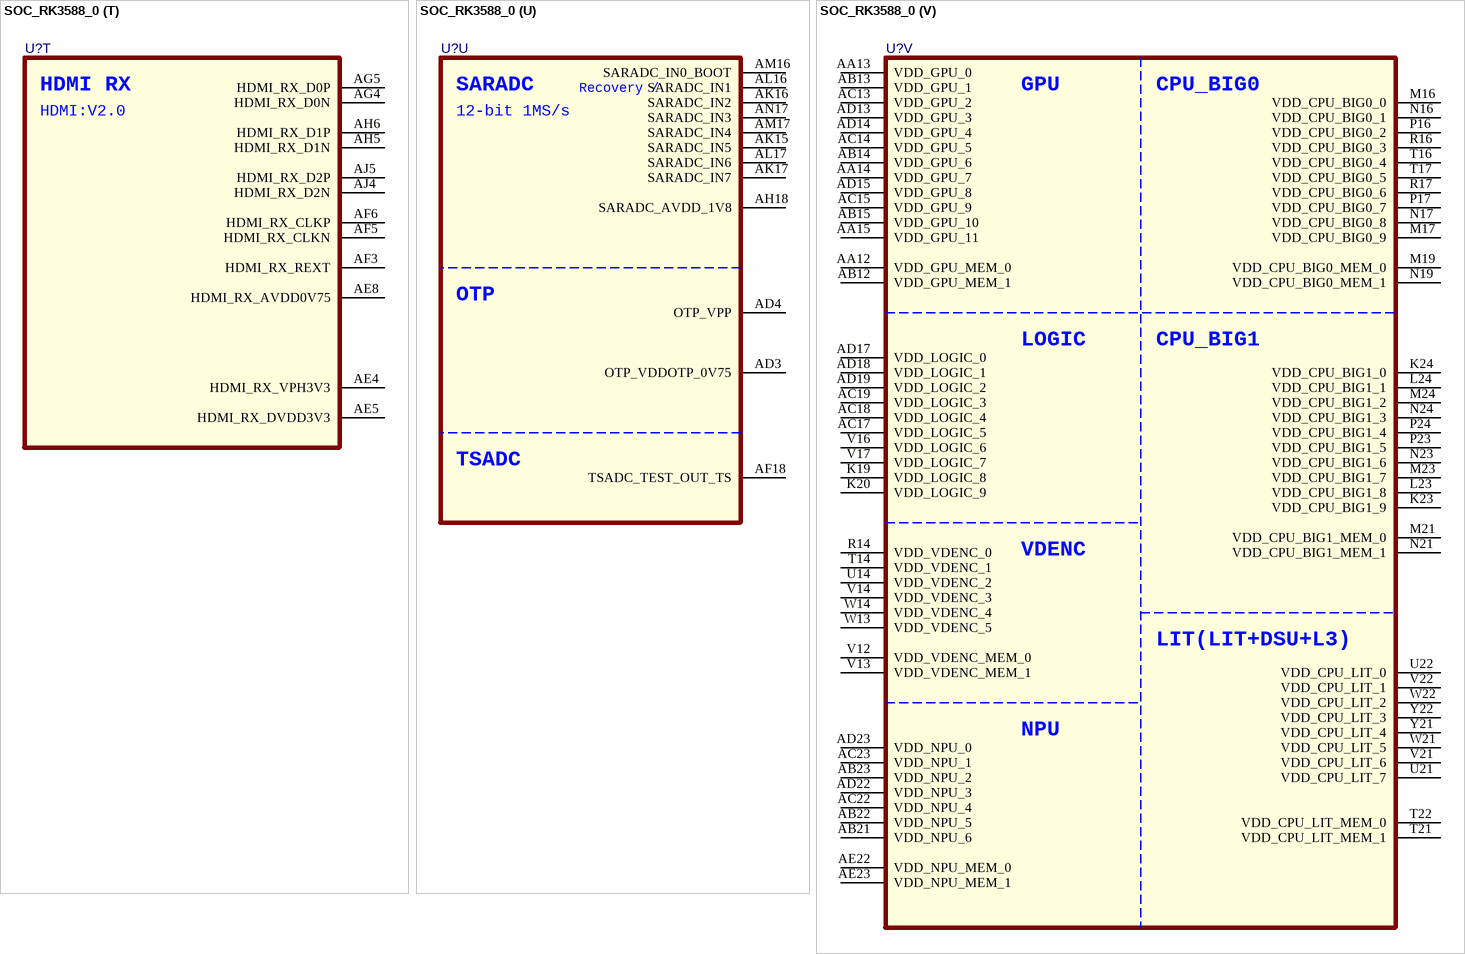
[diagram p73: symbol SOC_RK3588_0]

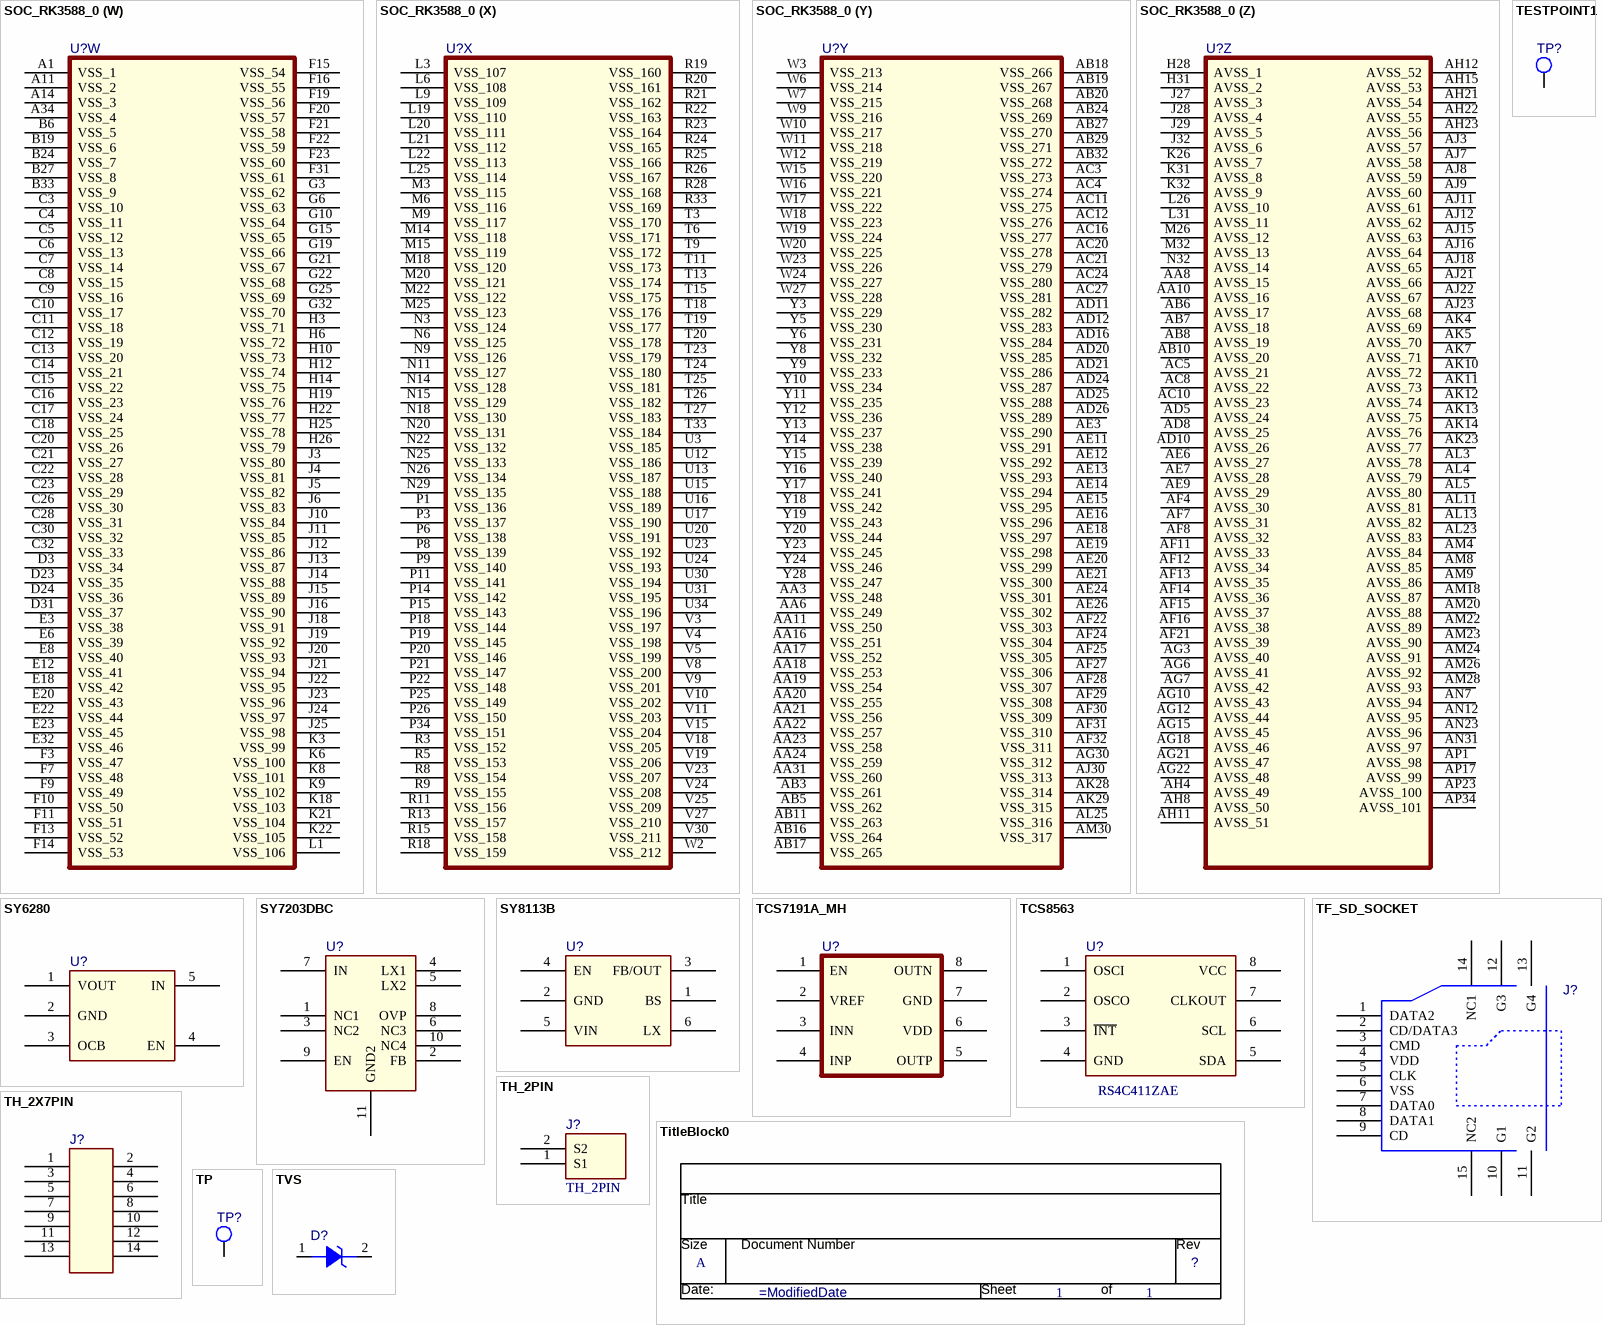
[diagram p74: symbols SOC_RK3588_0 to TVS]